# Altium integrated library SignalCommunications.IntLib: 804 symbols (part 4 of 10)
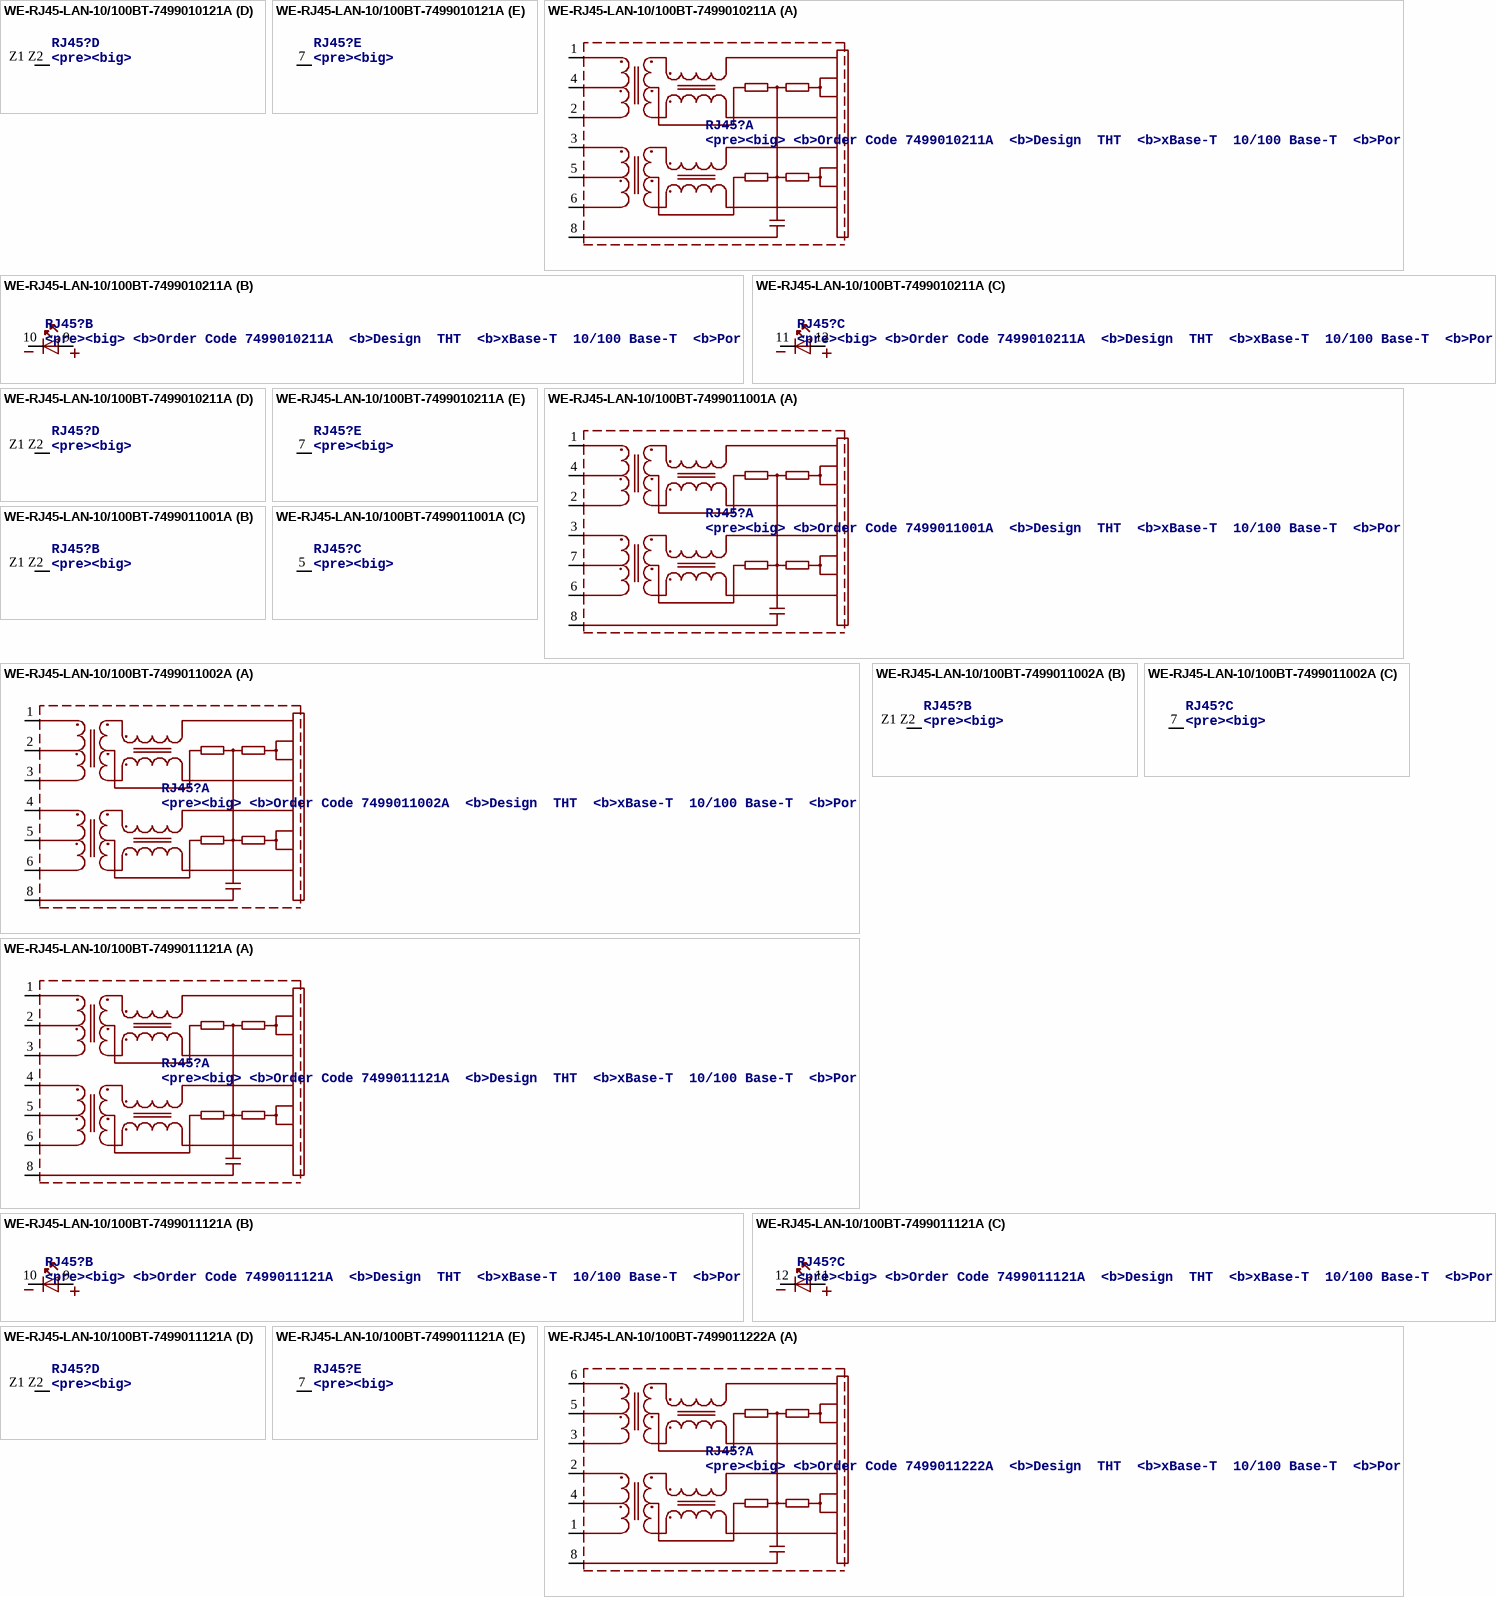
[diagram p45: symbols WE-RJ45-LAN-10/100BT-7499010121A to WE-RJ45-LAN-10/100BT-7499011222A]

## WE-RJ45-LAN-10/100BT-7499011002A
designator RJ45?, comment <pre><big> / <b>Order Code	7499011002A / <b>Design		THT / <b>xBase-T		10/100 Base-T / <b>Ports		1x1 / <b>Application	Standard / <b>Tab Position	Down / <b>LED (Left-Right)	NONE / <b>EMI Fingers	Yes
MANUFACTURER: Würth Elektronik eiSos GmbH; CREATED-BY: Christin Zierenner; COMPANY-URL: http://www.we-online.de; CREATED-DATE: AUG 2012; DATASHEET-URL: http://katalog.we-online.de/kataloge/eisos/media/pdf/7499011002A.pdf
footprint 74990-WITHOUT-LED-(21.84X15.88MM)
part A pins: 1 TD+, 2 TCT, 3 TD-, 4 RD+, 5 RCT, 6 RD-, 8 SH (power)
part B pins: Z1 Z2 P$1 (power)
part C pins: 7 NC

## WE-RJ45-LAN-10/100BT-7499011121A
designator RJ45?, comment <pre><big> / <b>Order Code	7499011121A / <b>Design		THT / <b>xBase-T		10/100 Base-T / <b>Ports		1x1 / <b>Application	Standard / <b>Tab Position	DOWN / <b>LED (Left-Right)	Yellow-Green / <b>EMI Fingers	Yes
MANUFACTURER: Würth Elektronik eiSos GmbH; CREATED-BY: Christin Zierenner; COMPANY-URL: http://www.we-online.de; CREATED-DATE: AUG 2012; DATASHEET-URL: http://katalog.we-online.de/kataloge/eisos/media/pdf/7499011121A.pdf
footprint 74990-WITH-LED-TYPE1
part A pins: 1 TD+, 2 TCT, 3 TD-, 4 RD+, 5 RCT, 6 RD-, 8 SH (power)
part B pins: 9 A, 10 K
part C pins: 11 A, 12 K
part D pins: Z1 Z2 P$1 (power)
part E pins: 7 NC

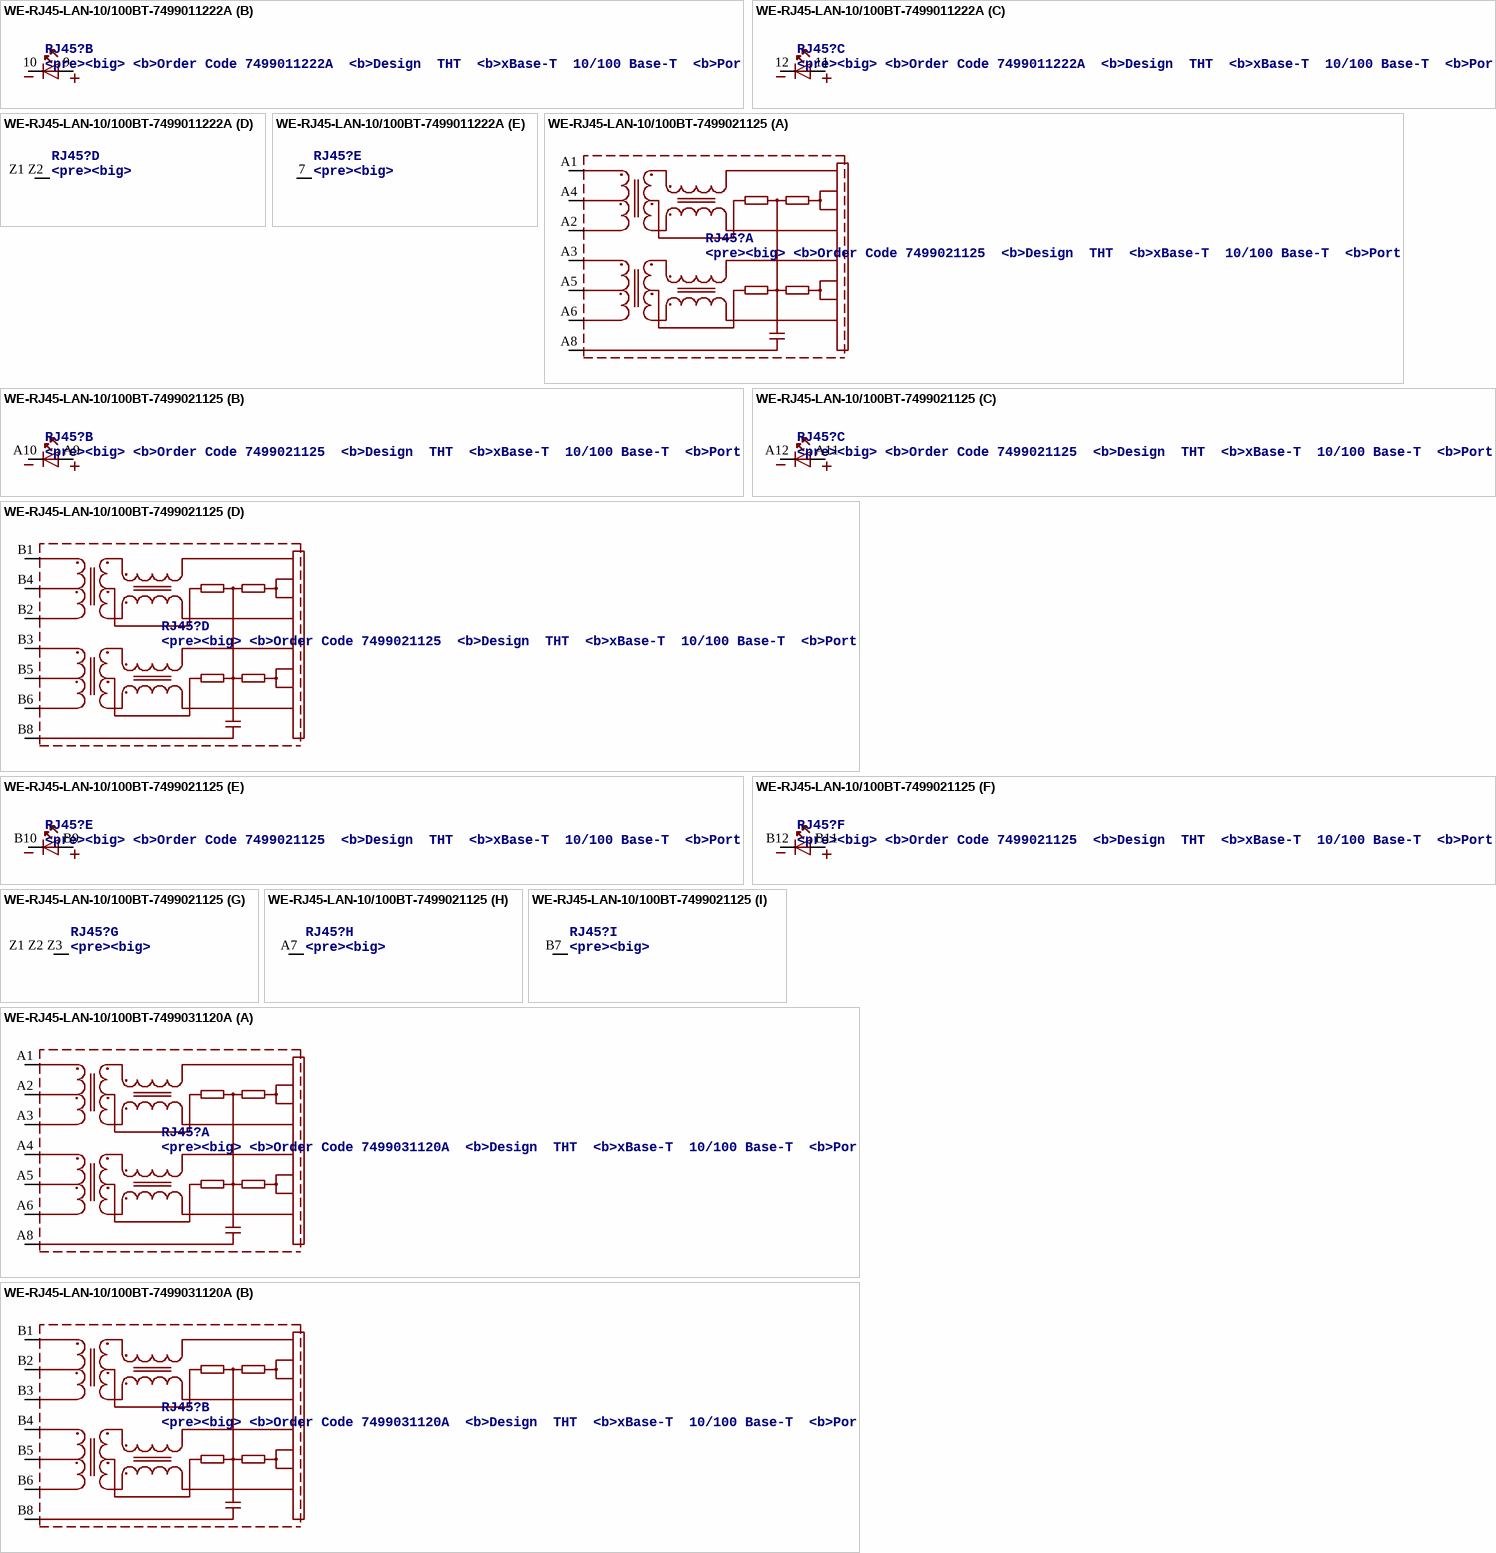
[diagram p21: symbols WE-RJ45-LAN-10/100BT-7499011222A to WE-RJ45-LAN-10/100BT-7499031120A]

## WE-RJ45-LAN-10/100BT-7499011222A
designator RJ45?, comment <pre><big> / <b>Order Code	7499011222A / <b>Design		THT / <b>xBase-T		10/100 Base-T / <b>Ports		1x1 / <b>Application	Standard / <b>Tab Position	DOWN / <b>LED (Left-Right)	Green-Green / <b>EMI Fingers	Yes
MANUFACTURER: Würth Elektronik eiSos GmbH; CREATED-BY: Christin Zierenner; COMPANY-URL: http://www.we-online.de; CREATED-DATE: AUG 2012; DATASHEET-URL: http://katalog.we-online.de/kataloge/eisos/media/pdf/7499011222A.pdf
footprint 74990-WITH-LED-TYPE1
part A pins: 1 TD-, 2 TD+, 3 RD-, 4 TCT, 5 RCT, 6 RD+, 8 SH (power)
part B pins: 9 A, 10 K
part C pins: 11 A, 12 K
part D pins: Z1 Z2 P$1 (power)
part E pins: 7 NC

## WE-RJ45-LAN-10/100BT-7499021125
designator RJ45?, comment <pre><big> / <b>Order Code	7499021125 / <b>Design		THT / <b>xBase-T		10/100 Base-T / <b>Ports		1x2 HORIZONTAL / <b>Application	Standard / <b>Tab Position	DOWN / <b>LED (Left-Right)	YELLOW-GREEN / <b>EMI Fingers	Yes
MANUFACTURER: Würth Elektronik eiSos GmbH; CREATED-BY: Christin Zierenner; COMPANY-URL: http://www.we-online.de; CREATED-DATE: AUG 2012; DATASHEET-URL: http://katalog.we-online.de/kataloge/eisos/media/pdf/7499021125.pdf
footprint 7499021125-2PORTS-HORIZONTAL
part A pins: A1 RD+, A2 RD-, A3 TD+, A4 RCT, A5 TCT, A6 TD-, A8 SH (power)
part B pins: A9 A, A10 K
part C pins: A11 A, A12 K
part D pins: B1 RD+, B2 RD-, B3 TD+, B4 RCT, B5 TCT, B6 TD-, B8 SH (power)
part E pins: B9 A, B10 K
part F pins: B11 A, B12 K
part G pins: Z1 Z2 Z3 P$1 (power)
part H pins: A7 NC
part I pins: B7 NC

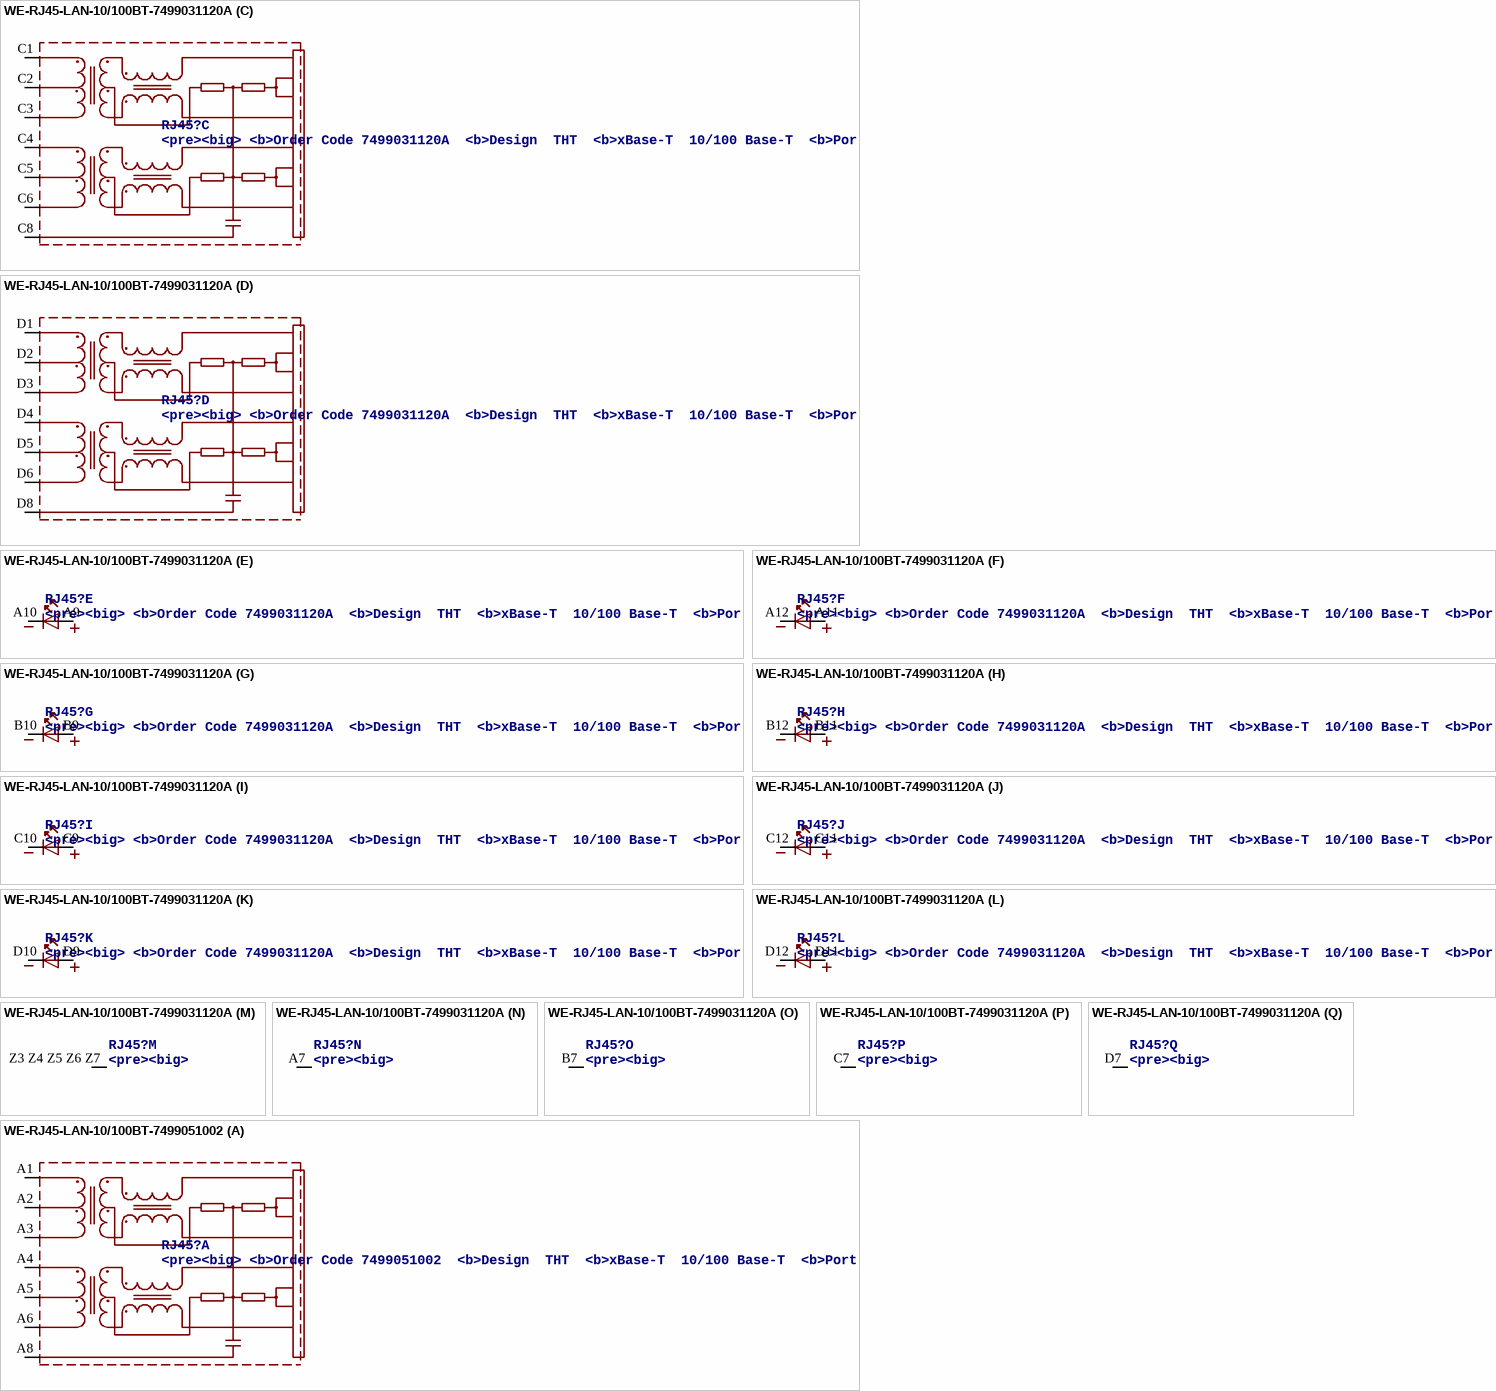
[diagram p22: symbols WE-RJ45-LAN-10/100BT-7499031120A to WE-RJ45-LAN-10/100BT-7499051002]

## WE-RJ45-LAN-10/100BT-7499031120A
designator RJ45?, comment <pre><big> / <b>Order Code	7499031120A / <b>Design		THT / <b>xBase-T		10/100 Base-T / <b>Ports		1x4 HORIZONTAL / <b>Application	Standard / <b>Tab Position	DOWN / <b>LED (Left-Right)	YELLOW-GREEN / <b>EMI Fingers	Yes
MANUFACTURER: Würth Elektronik eiSos GmbH; CREATED-BY: Christin Zierenner; COMPANY-URL: http://www.we-online.de; CREATED-DATE: AUG 2012; DATASHEET-URL: http://katalog.we-online.de/kataloge/eisos/media/pdf/7499031120A.pdf
footprint 7499031120A-4PORTS-HORIZONTAL
part A pins: A1 RD+, A2 RCT, A3 RD-, A4 TD+, A5 TCT, A6 TD-, A8 SH (power)
part B pins: B1 RD+, B2 RCT, B3 RD-, B4 TD+, B5 TCT, B6 TD-, B8 SH (power)
part C pins: C1 RD+, C2 RCT, C3 RD-, C4 TD+, C5 TCT, C6 TD-, C8 SH (power)
part D pins: D1 RD+, D2 RCT, D3 RD-, D4 TD+, D5 TCT, D6 TD-, D8 SH (power)
part E pins: A9 A, A10 K
part F pins: A11 A, A12 K
part G pins: B9 A, B10 K
part H pins: B11 A, B12 K
part I pins: C9 A, C10 K
part J pins: C11 A, C12 K
part K pins: D9 A, D10 K
part L pins: D11 A, D12 K
part M pins: Z3 Z4 Z5 Z6 Z7 P$1 (power)
part N pins: A7 NC
part O pins: B7 NC
part P pins: C7 NC
part Q pins: D7 NC

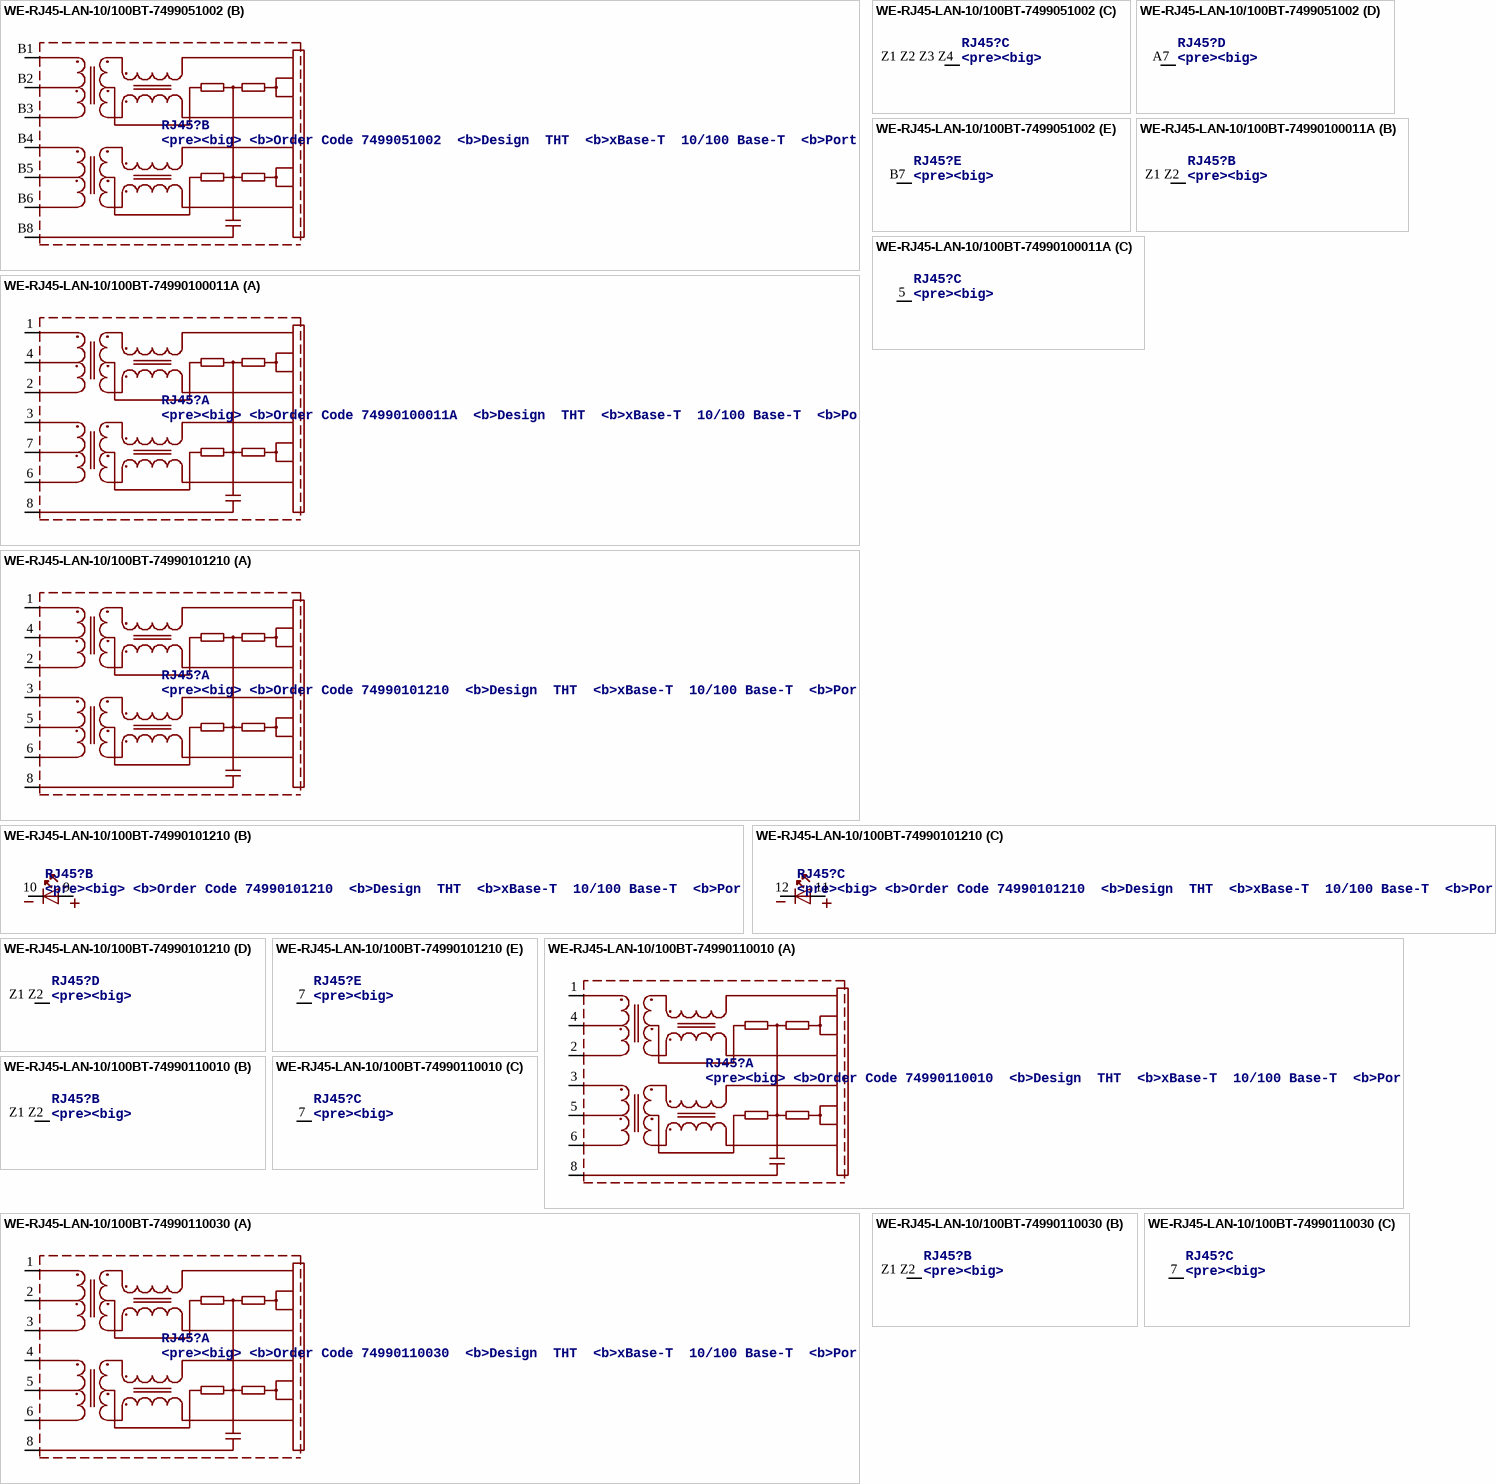
[diagram p23: symbols WE-RJ45-LAN-10/100BT-7499051002 to WE-RJ45-LAN-10/100BT-74990110030]

## WE-RJ45-LAN-10/100BT-7499051002
designator RJ45?, comment <pre><big> / <b>Order Code	7499051002 / <b>Design		THT / <b>xBase-T		10/100 Base-T / <b>Ports		1x2 STACKED / <b>Application	Standard / <b>Tab Position	UP & DOWN / <b>LED (Left-Right)	NONE / <b>EMI Fingers	Yes
MANUFACTURER: Würth Elektronik eiSos GmbH; CREATED-BY: Christin Zierenner; COMPANY-URL: http://www.we-online.de; CREATED-DATE: AUG 2012; DATASHEET-URL: http://katalog.we-online.de/kataloge/eisos/media/pdf/7499051002.pdf
footprint 7499051002-1X2-STACKED
part A pins: A1 TD+, A2 TCT, A3 TD-, A4 RD+, A5 RCT, A6 RD-, A8 SH (power)
part B pins: B1 TD+, B2 TCT, B3 TD-, B4 RD+, B5 RCT, B6 RD-, B8 SH (power)
part C pins: Z1 Z2 Z3 Z4 P$1 (power)
part D pins: A7 NC
part E pins: B7 NC

## WE-RJ45-LAN-10/100BT-74990100011A
designator RJ45?, comment <pre><big> / <b>Order Code	74990100011A / <b>Design		THT / <b>xBase-T		10/100 Base-T / <b>Ports		1x1 / <b>Application	Standard / <b>Tab Position	UP / <b>LED (Left-Right)	NONE / <b>EMI Fingers	No
MANUFACTURER: Würth Elektronik eiSos GmbH; CREATED-BY: Christin Zierenner; COMPANY-URL: http://www.we-online.de; CREATED-DATE: AUG 2012; DATASHEET-URL: http://katalog.we-online.de/kataloge/eisos/media/pdf/74990100011A.pdf
footprint 74990-WITHOUT-LED-(21.84X16.2MM)
part A pins: 1 RD+, 2 RD-, 3 TD+, 4 RCT, 6 TD-, 7 TCT, 8 SH (power)
part B pins: Z1 Z2 P$1 (power)
part C pins: 5 NC

## WE-RJ45-LAN-10/100BT-74990101210
designator RJ45?, comment <pre><big> / <b>Order Code	74990101210 / <b>Design		THT / <b>xBase-T		10/100 Base-T / <b>Ports		1x1 Vertical / <b>Application	Standard / <b>Tab Position 	Vertical / <b>LED (Left-Right)	Yellow-Green / <b>EMI Fingers	No
MANUFACTURER: Würth Elektronik eiSos GmbH; CREATED-BY: Christin Zierenner; COMPANY-URL: http://www.we-online.de; CREATED-DATE: AUG 2012; DATASHEET-URL: http://katalog.we-online.de/kataloge/eisos/media/pdf/74990101210.pdf
footprint 74990101210-VERTICALMOUNT
part A pins: 1 TD+, 2 TD-, 3 RD+, 4 TCT, 5 RCT, 6 RD-, 8 SH (power)
part B pins: 9 A, 10 K
part C pins: 11 A, 12 K
part D pins: Z1 Z2 P$1 (power)
part E pins: 7 NC

## WE-RJ45-LAN-10/100BT-74990110010
designator RJ45?, comment <pre><big> / <b>Order Code	74990110010 / <b>Design		THT / <b>xBase-T		10/100 Base-T / <b>Ports		1x1 / <b>Application	Standard / <b>Tab Position	UP / <b>LED (Left-Right)	NONE / <b>EMI Fingers	Yes
MANUFACTURER: Würth Elektronik eiSos GmbH; CREATED-BY: Christin Zierenner; COMPANY-URL: http://www.we-online.de; CREATED-DATE: AUG 2012; DATASHEET-URL: http://katalog.we-online.de/kataloge/eisos/media/pdf/74990110010.pdf
footprint 74990-WITHOUT-LED
part A pins: 1 TD+, 2 TD-, 3 RD+, 4 TCT, 5 RCT, 6 RD-, 8 SH (power)
part B pins: Z1 Z2 P$1 (power)
part C pins: 7 NC

## WE-RJ45-LAN-10/100BT-74990110030
designator RJ45?, comment <pre><big> / <b>Order Code	74990110030 / <b>Design		THT / <b>xBase-T		10/100 Base-T / <b>Ports		1x1 / <b>Application	Standard / <b>Tab Position	UP / <b>LED (Left-Right)	NONE / <b>EMI Fingers	Yes
MANUFACTURER: Würth Elektronik eiSos GmbH; CREATED-BY: Christin Zierenner; COMPANY-URL: http://www.we-online.de; CREATED-DATE: AUG 2012; DATASHEET-URL: http://katalog.we-online.de/kataloge/eisos/media/pdf/74990110030.pdf
footprint 74990110030
part A pins: 1 TD+, 2 TCT, 3 TD-, 4 RD+, 5 RCT, 6 RD-, 8 SH (power)
part B pins: Z1 Z2 P$1 (power)
part C pins: 7 NC

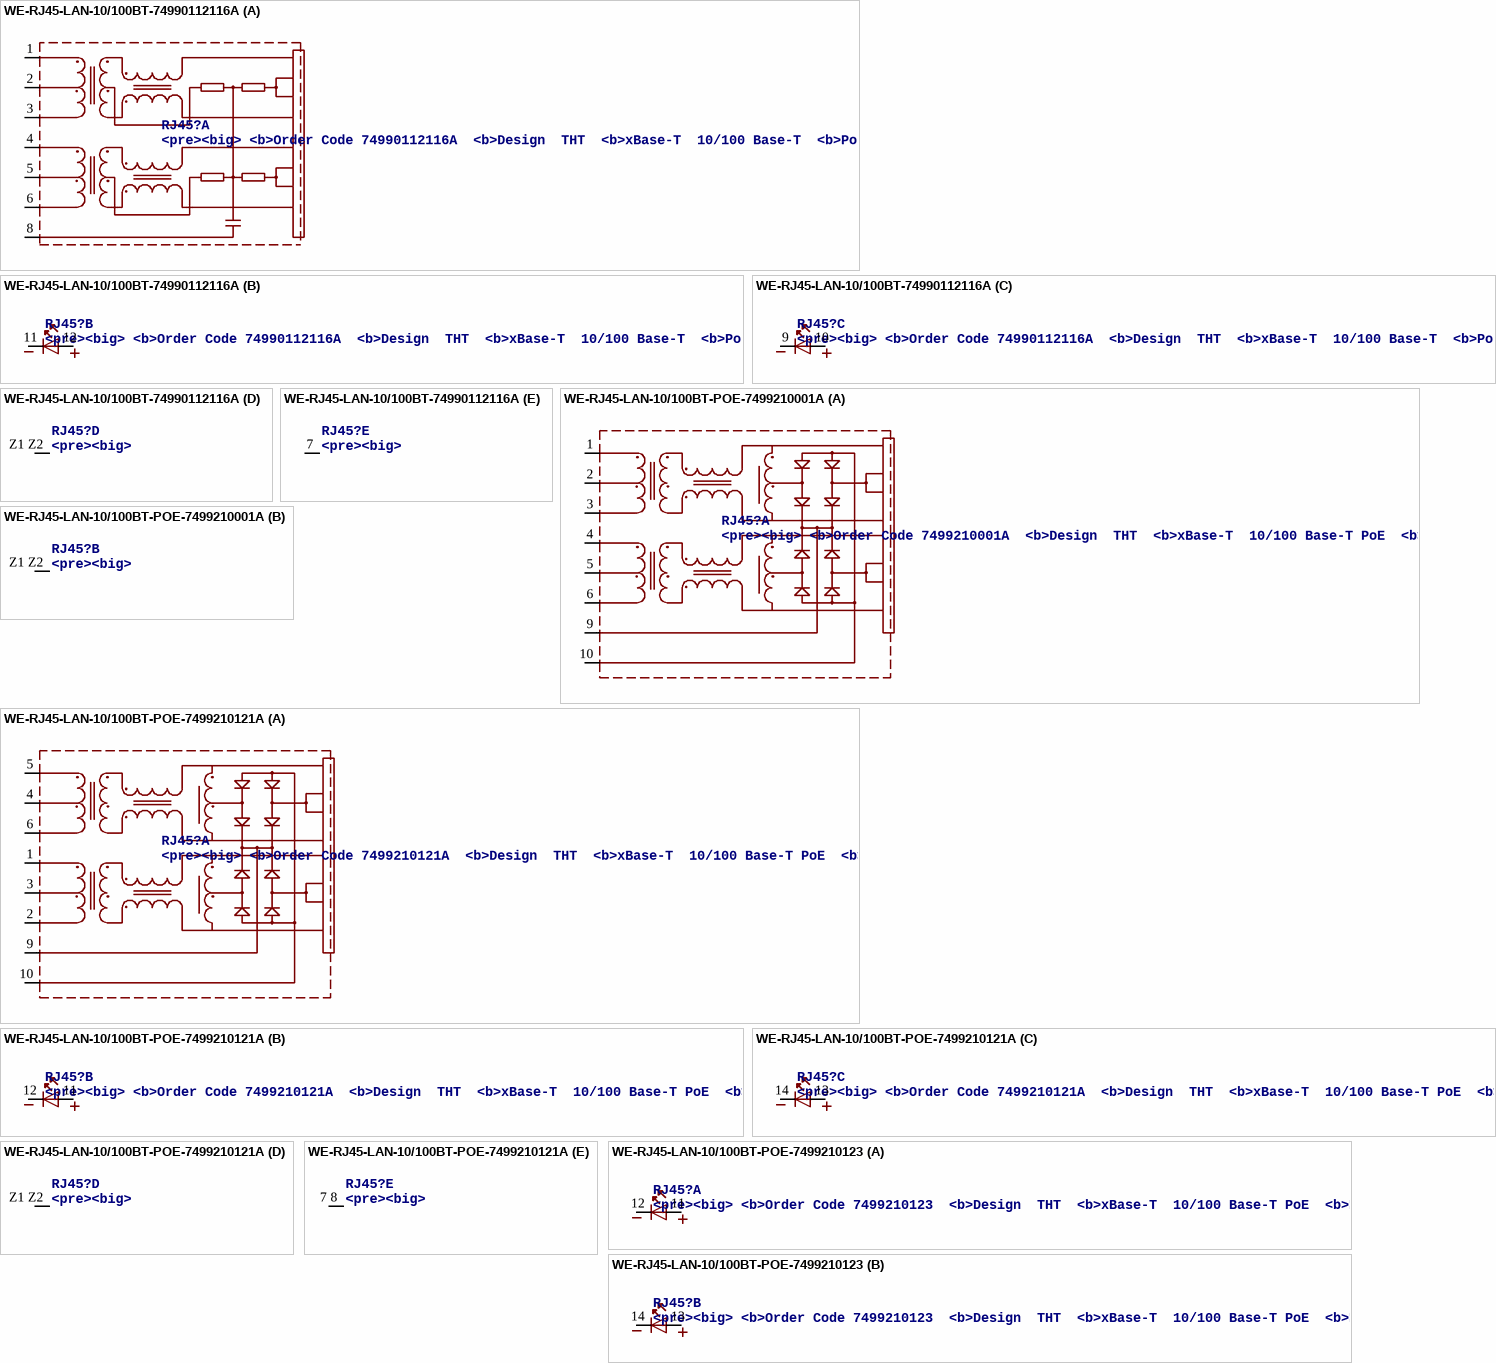
[diagram p24: symbols WE-RJ45-LAN-10/100BT-74990112116A to WE-RJ45-LAN-10/100BT-POE-7499210123]

## WE-RJ45-LAN-10/100BT-74990112116A
designator RJ45?, comment <pre><big> / <b>Order Code	74990112116A / <b>Design		THT / <b>xBase-T		10/100 Base-T / <b>Ports		1x1 / <b>Application	Standard / <b>Tab Position	UP / <b>LED (Left-Right)	Green-Yellow / <b>EMI Fingers	Yes
MANUFACTURER: Würth Elektronik eiSos GmbH; CREATED-BY: Christin Zierenner; COMPANY-URL: http://www.we-online.de; CREATED-DATE: AUG 2012; DATASHEET-URL: http://katalog.we-online.de/kataloge/eisos/media/pdf/74990112116A.pdf
footprint 74990-WITH-LED
part A pins: 1 TD+, 2 TCT, 3 TD-, 4 RD+, 5 RCT, 6 RD-, 8 SH (power)
part B pins: 11 K, 12 A
part C pins: 9 K, 10 A
part D pins: Z1 Z2 P$1 (power)
part E pins: 7 NC

## WE-RJ45-LAN-10/100BT-POE-7499210001A
designator RJ45?, comment <pre><big> / <b>Order Code	7499210001A / <b>Design		THT / <b>xBase-T		10/100 Base-T PoE / <b>Ports		1x1 / <b>Application	PoE / <b>Tab Position	UP / <b>LED (Left-Right)	NONE / <b>EMI Fingers	No
MANUFACTURER: Würth Elektronik eiSos GmbH; CREATED-BY: Christin Zierenner; COMPANY-URL: http://www.we-online.de; CREATED-DATE: AUG 2012; DATASHEET-URL: http://katalog.we-online.de/kataloge/eisos/media/pdf/7499210001A.pdf
footprint 7499210001A
part A pins: 1 RD+, 2 RCT, 3 RD-, 4 TD+, 5 TCT, 6 TD-, 9 VC1+ (power), 10 VC1- (power)
part B pins: Z1 Z2 P$1 (power)

## WE-RJ45-LAN-10/100BT-POE-7499210121A
designator RJ45?, comment <pre><big> / <b>Order Code	7499210121A / <b>Design		THT / <b>xBase-T		10/100 Base-T PoE / <b>Ports		1x1 / <b>Application	PoE / <b>Tab Position	DOWN / <b>LED (Left-Right)	YELLOW-GREEN / <b>EMI Fingers	No
MANUFACTURER: Würth Elektronik eiSos GmbH; CREATED-BY: Christin Zierenner; COMPANY-URL: http://www.we-online.de; CREATED-DATE: AUG 2012; DATASHEET-URL: http://katalog.we-online.de/kataloge/eisos/media/pdf/7499210121A.pdf
footprint 7499210121A
part A pins: 1 TD+, 2 TD-, 3 TCT, 4 RCT, 5 RD+, 6 RD-, 9 VC1+ (power), 10 VC1- (power)
part B pins: 11 A, 12 K
part C pins: 13 A, 14 K
part D pins: Z1 Z2 P$1 (power)
part E pins: 7 8 NC

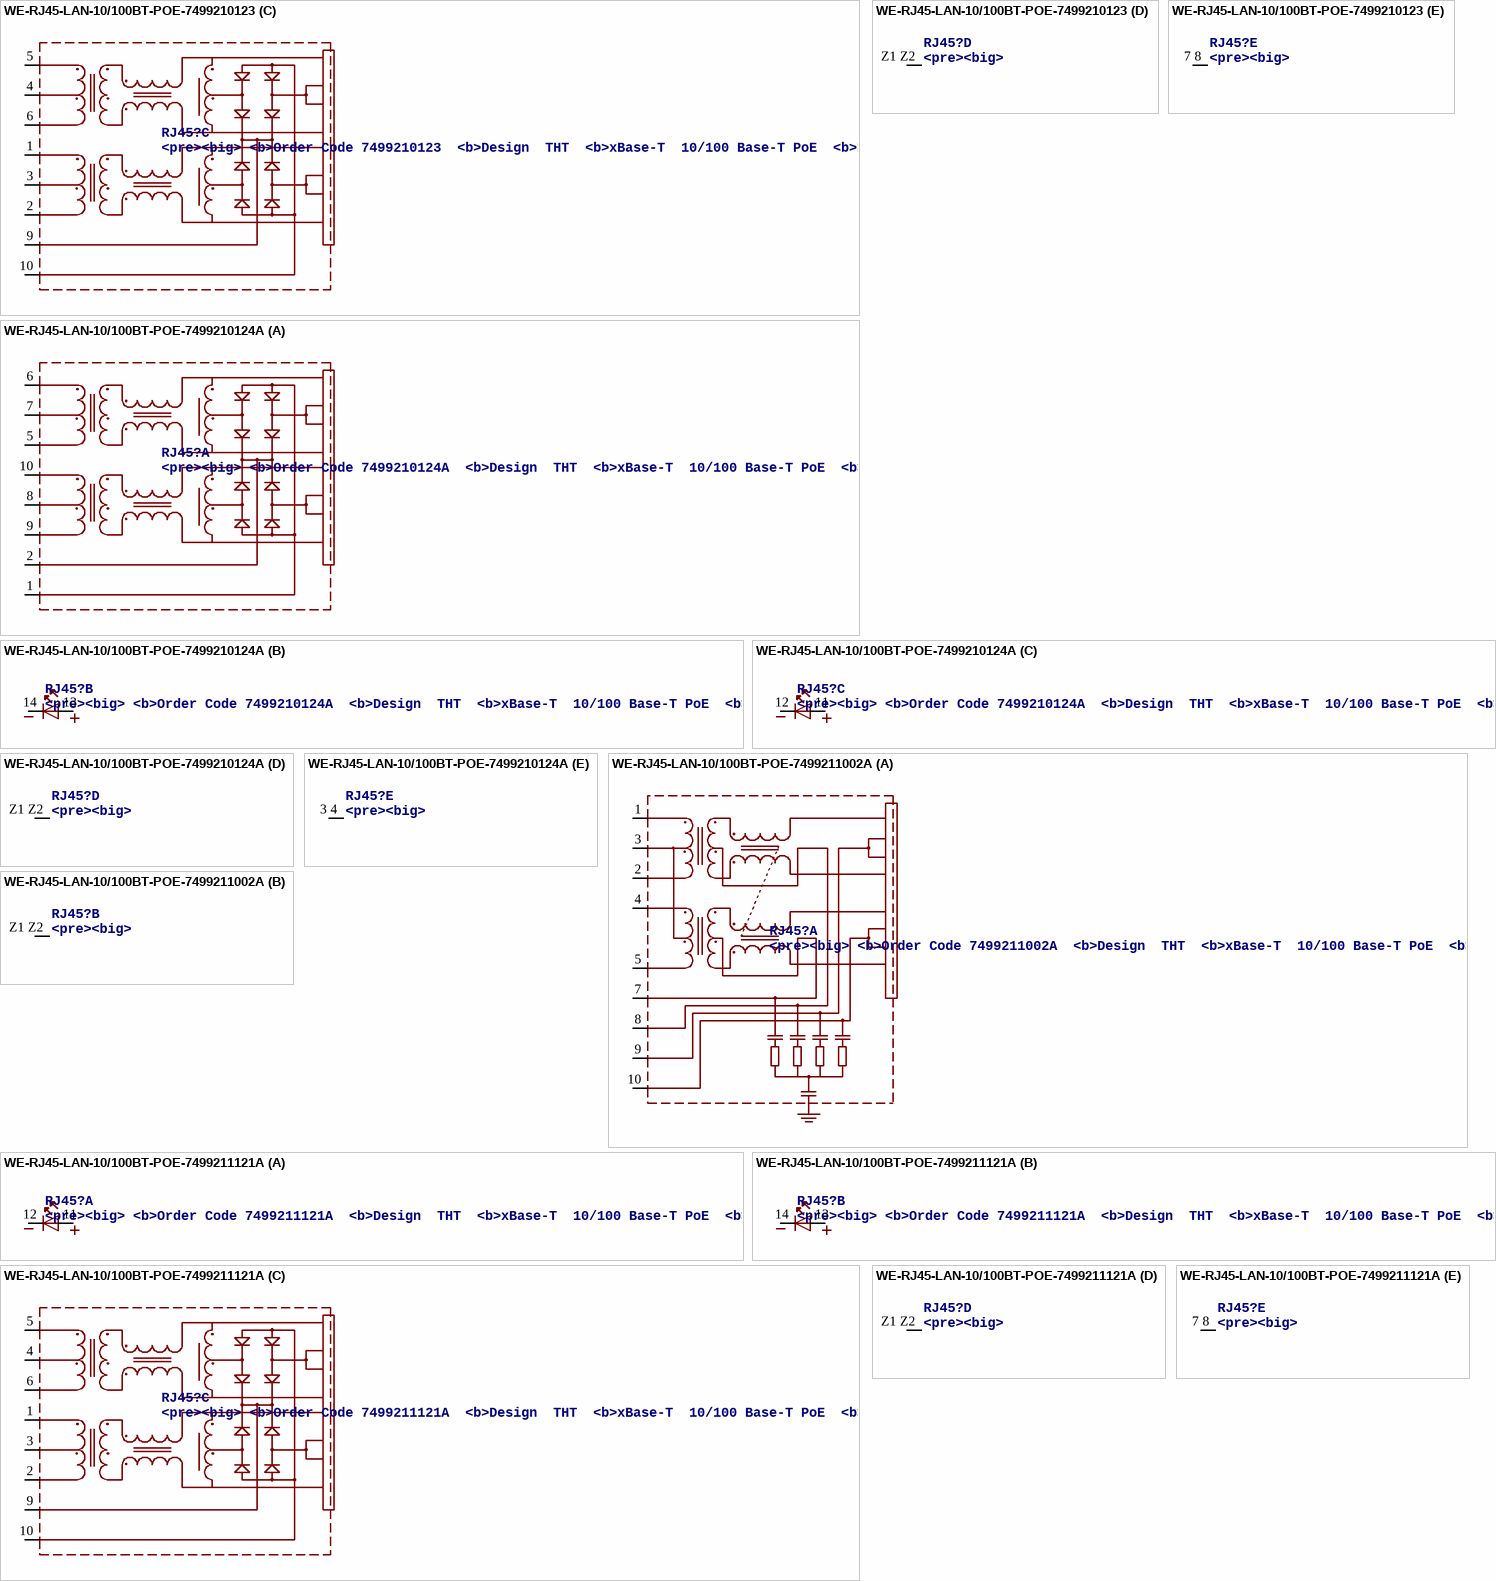
[diagram p25: symbols WE-RJ45-LAN-10/100BT-POE-7499210123 to WE-RJ45-LAN-10/100BT-POE-7499211121A]

## WE-RJ45-LAN-10/100BT-POE-7499210123
designator RJ45?, comment <pre><big> / <b>Order Code	7499210123 / <b>Design		THT / <b>xBase-T		10/100 Base-T PoE / <b>Ports		1x1 / <b>Application	PoE / <b>Tab Position	VERTICAL / <b>LED (Left-Right)	YELLOW-GREEN / <b>EMI Fingers	No
MANUFACTURER: Würth Elektronik eiSos GmbH; CREATED-BY: Christin Zierenner; COMPANY-URL: http://www.we-online.de; CREATED-DATE: AUG 2012; DATASHEET-URL: http://katalog.we-online.de/kataloge/eisos/media/pdf/7499210123.pdf
footprint 7499210123
part A pins: 11 A, 12 K
part B pins: 13 A, 14 K
part C pins: 1 TD+, 2 TD-, 3 TCT, 4 RCT, 5 RD+, 6 RD-, 9 VC1+ (power), 10 VC1- (power)
part D pins: Z1 Z2 P$1 (power)
part E pins: 7 8 NC

## WE-RJ45-LAN-10/100BT-POE-7499210124A
designator RJ45?, comment <pre><big> / <b>Order Code	7499210124A / <b>Design		THT / <b>xBase-T		10/100 Base-T PoE / <b>Ports		1x1 / <b>Application	PoE / <b>Tab Position	UP / <b>LED (Left-Right)	YELLOW-GREEN / <b>EMI Fingers	No
MANUFACTURER: Würth Elektronik eiSos GmbH; CREATED-BY: Christin Zierenner; COMPANY-URL: http://www.we-online.de; CREATED-DATE: AUG 2012; DATASHEET-URL: http://katalog.we-online.de/kataloge/eisos/media/pdf/7499210124A.pdf
footprint 7499210124A
part A pins: 1 VC1- (power), 2 VC1+ (power), 5 RD-, 6 RD+, 7 RCT, 8 TCT, 9 TD-, 10 TD+
part B pins: 13 A, 14 K
part C pins: 11 A, 12 K
part D pins: Z1 Z2 P$1 (power)
part E pins: 3 4 NC

## WE-RJ45-LAN-10/100BT-POE-7499211002A
designator RJ45?, comment <pre><big> / <b>Order Code	7499211002A / <b>Design		THT / <b>xBase-T		10/100 Base-T PoE / <b>Ports		1x1 / <b>Application	PoE / <b>Tab Position	DOWN / <b>LED (Left-Right)	NONE / <b>EMI Fingers	Yes
MANUFACTURER: Würth Elektronik eiSos GmbH; CREATED-BY: Christin Zierenner; COMPANY-URL: http://www.we-online.de; CREATED-DATE: AUG 2012; DATASHEET-URL: http://katalog.we-online.de/kataloge/eisos/media/pdf/7499211002A.pdf
footprint 7499211002A
part A pins: 1 TD+, 2 TD-, 3 TCT, 4 RD+, 5 RD-, 7 VC1+ (power), 8 VC1- (power), 9 VC2+ (power), 10 VC2- (power)
part B pins: Z1 Z2 P$1 (power)

## WE-RJ45-LAN-10/100BT-POE-7499211121A
designator RJ45?, comment <pre><big> / <b>Order Code	7499211121A / <b>Design		THT / <b>xBase-T		10/100 Base-T PoE / <b>Ports		1x1 / <b>Application	PoE / <b>Tab Position	DOWN / <b>LED (Left-Right)	YELLOW-GREEN / <b>EMI Fingers	Yes
MANUFACTURER: Würth Elektronik eiSos GmbH; CREATED-BY: Christin Zierenner; COMPANY-URL: http://www.we-online.de; CREATED-DATE: AUG 2012; DATASHEET-URL: http://katalog.we-online.de/kataloge/eisos/media/pdf/7499211121A.pdf
footprint 7499211121A
part A pins: 11 A, 12 K
part B pins: 13 A, 14 K
part C pins: 1 RD+, 2 RD-, 3 RCT, 4 TCT, 5 TD+, 6 TD-, 9 VC1+ (power), 10 VC1- (power)
part D pins: Z1 Z2 P$1 (power)
part E pins: 7 8 NC

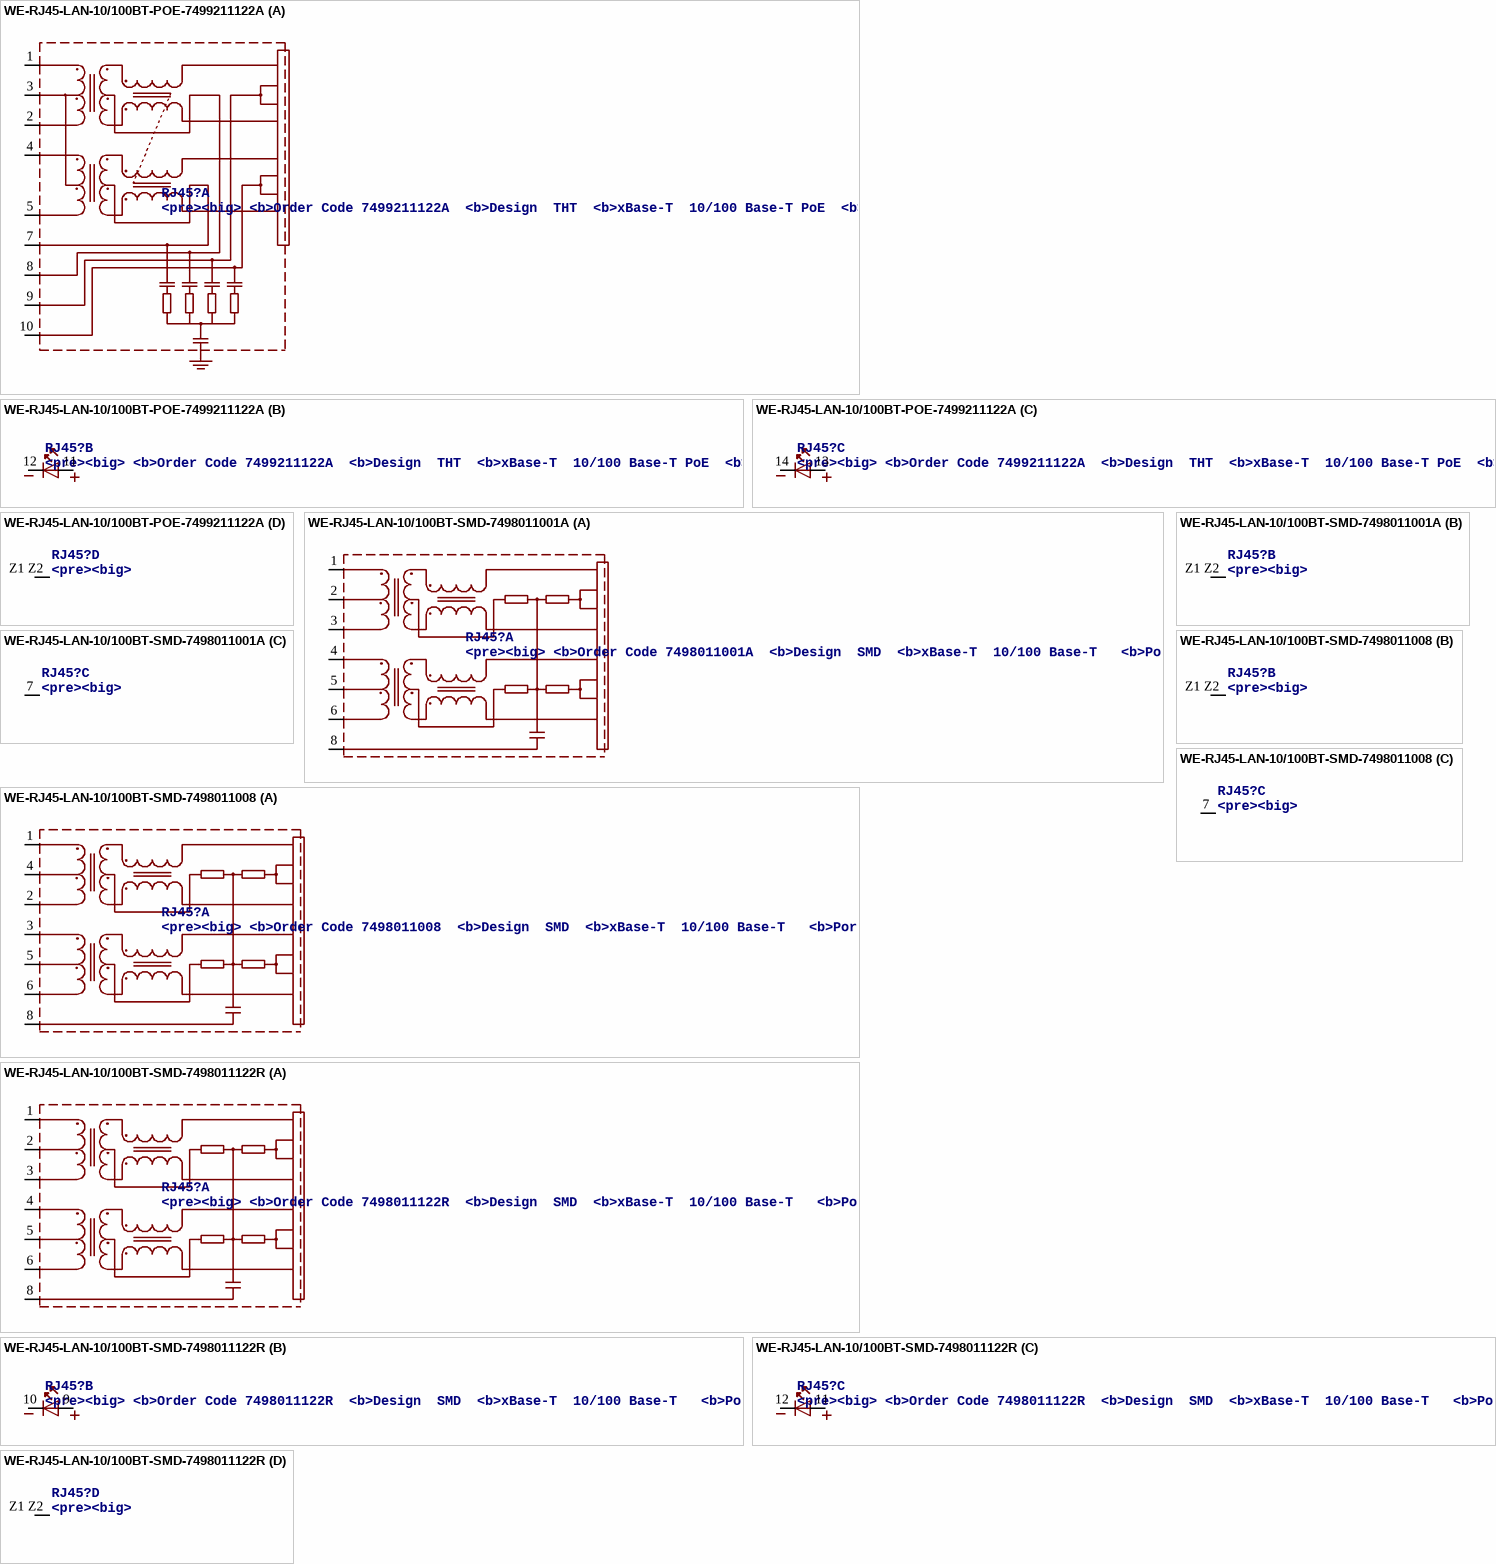
[diagram p26: symbols WE-RJ45-LAN-10/100BT-POE-7499211122A to WE-RJ45-LAN-10/100BT-SMD-7498011122R]

## WE-RJ45-LAN-10/100BT-POE-7499211122A
designator RJ45?, comment <pre><big> / <b>Order Code	7499211122A / <b>Design		THT / <b>xBase-T		10/100 Base-T PoE / <b>Ports		1x1 / <b>Application	PoE / <b>Tab Position	DOWN / <b>LED (Left-Right)	YELLOW-GREEN / <b>EMI Fingers	Yes
MANUFACTURER: Würth Elektronik eiSos GmbH; CREATED-BY: Christin Zierenner; COMPANY-URL: http://www.we-online.de; CREATED-DATE: AUG 2012; DATASHEET-URL: http://katalog.we-online.de/kataloge/eisos/media/pdf/7499211122A.pdf
footprint 7499211122A
part A pins: 1 RD+, 2 RD-, 3 RCT, 4 TD+, 5 TD-, 7 VC1+ (power), 8 VC1- (power), 9 VC2+ (power), 10 VC2- (power)
part B pins: 11 A, 12 K
part C pins: 13 A, 14 K
part D pins: Z1 Z2 P$1 (power)

## WE-RJ45-LAN-10/100BT-SMD-7498011001A
designator RJ45?, comment <pre><big> / <b>Order Code	7498011001A / <b>Design		SMD / <b>xBase-T		10/100 Base-T / <b>Ports		1x1 / <b>Application	Standard / <b>Tab Position	Down / <b>LED (Left-Right)	None / <b>EMI Fingers	Yes
MANUFACTURER: Würth Elektronik eiSos GmbH; CREATED-BY: Christin Zierenner; COMPANY-URL: http://www.we-online.de; CREATED-DATE: AUG 2012; DATASHEET-URL: http://katalog.we-online.de/kataloge/eisos/media/pdf/7498011001A.pdf
footprint 749801100X
part A pins: 1 TD+, 2 TCT, 3 TD-, 4 RD+, 5 RCT, 6 RD-, 8 SH (power)
part B pins: Z1 Z2 P$1 (power)
part C pins: 7 NC

## WE-RJ45-LAN-10/100BT-SMD-7498011008
designator RJ45?, comment <pre><big> / <b>Order Code	7498011008 / <b>Design		SMD / <b>xBase-T		10/100 Base-T / <b>Ports		1x1 / <b>Application	Standard / <b>Tab Position	Down / <b>LED (Left-Right)	None / <b>EMI Fingers	Yes
MANUFACTURER: Würth Elektronik eiSos GmbH; CREATED-BY: Christin Zierenner; COMPANY-URL: http://www.we-online.de; CREATED-DATE: AUG 2012; DATASHEET-URL: http://katalog.we-online.de/kataloge/eisos/media/pdf/7498011008.pdf
footprint 749801100X
part A pins: 1 RD+, 2 RD-, 3 TD+, 4 RCT, 5 TCT, 6 TD-, 8 SH (power)
part B pins: Z1 Z2 P$1 (power)
part C pins: 7 NC

## WE-RJ45-LAN-10/100BT-SMD-7498011122R
designator RJ45?, comment <pre><big> / <b>Order Code	7498011122R / <b>Design		SMD / <b>xBase-T		10/100 Base-T / <b>Ports		1x1 / <b>Application	Standard / <b>Tab Position	Up / <b>LED (Left-Right)	YELLOW-GREEN / <b>EMI Fingers	Yes
MANUFACTURER: Würth Elektronik eiSos GmbH; CREATED-BY: Christin Zierenner; COMPANY-URL: http://www.we-online.de; CREATED-DATE: AUG 2012; DATASHEET-URL: http://katalog.we-online.de/kataloge/eisos/media/pdf/7498011122R.pdf
footprint 7498011122R
part A pins: 1 TD+, 2 TCT, 3 TD-, 4 RD+, 5 RCT, 6 RD-, 8 SH (power)
part B pins: 9 A, 10 K
part C pins: 11 A, 12 K
part D pins: Z1 Z2 P$1 (power)

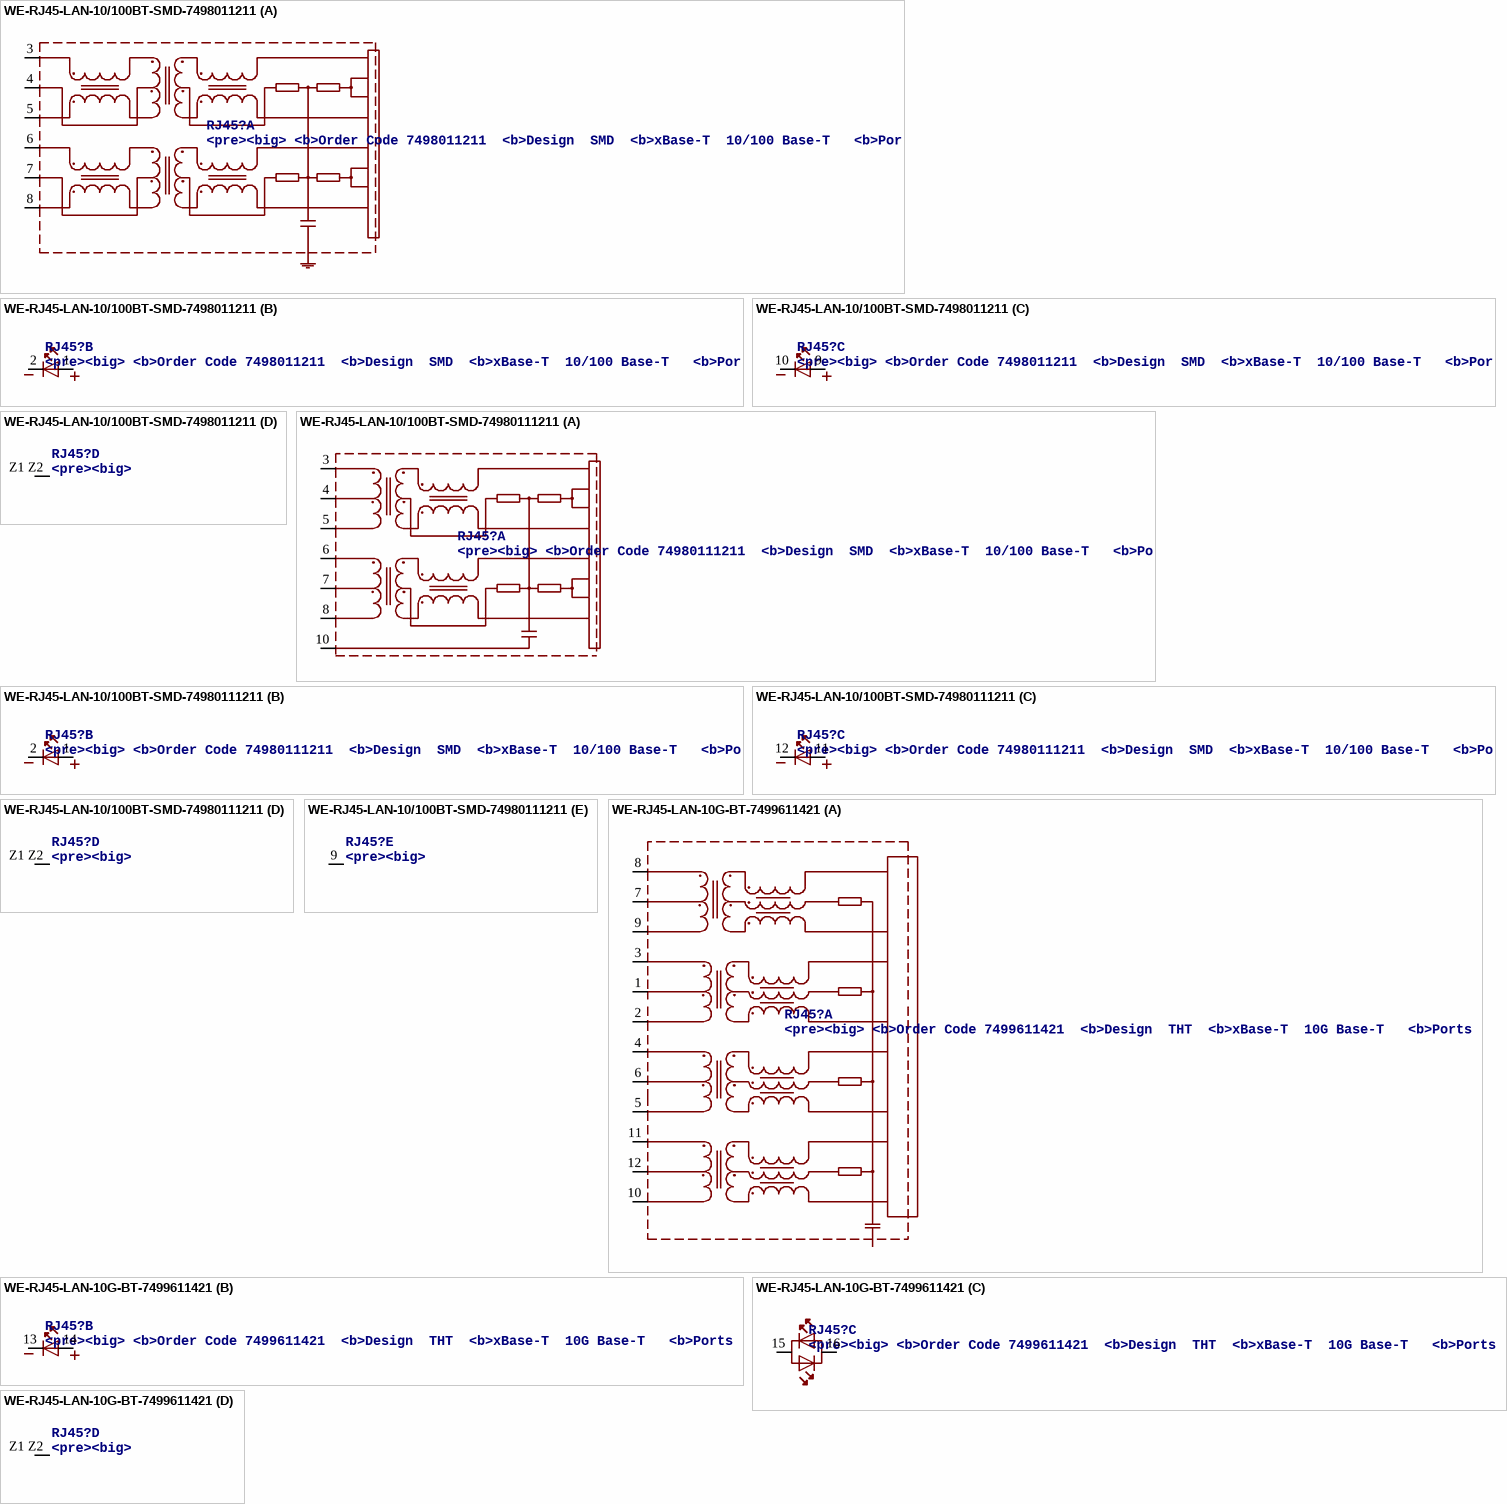
[diagram p27: symbols WE-RJ45-LAN-10/100BT-SMD-7498011211 to WE-RJ45-LAN-10G-BT-7499611421]

## WE-RJ45-LAN-10/100BT-SMD-7498011211
designator RJ45?, comment <pre><big> / <b>Order Code	7498011211 / <b>Design		SMD / <b>xBase-T		10/100 Base-T / <b>Ports		1x1 / <b>Application	Standard / <b>Tab Position	DOWN / <b>LED (Left-Right)	GREEN-YELLOW / <b>EMI Fingers	Yes
MANUFACTURER: Würth Elektronik eiSos GmbH; CREATED-BY: Christin Zierenner; COMPANY-URL: http://www.we-online.de; CREATED-DATE: AUG 2012; DATASHEET-URL: http://katalog.we-online.de/kataloge/eisos/media/pdf/7498011211.pdf
footprint 7498011211
part A pins: 3 TD+, 4 TCT, 5 TD-, 6 RD+, 7 RCT, 8 RD-
part B pins: 1 A, 2 K
part C pins: 9 A, 10 K
part D pins: Z1 Z2 P$1 (power)

## WE-RJ45-LAN-10/100BT-SMD-74980111211
designator RJ45?, comment <pre><big> / <b>Order Code	74980111211 / <b>Design		SMD / <b>xBase-T		10/100 Base-T / <b>Ports		1x1 / <b>Application	Standard / <b>Tab Position	Up / <b>LED (Left-Right)	YELLOW-GREEN / <b>EMI Fingers	Yes
MANUFACTURER: Würth Elektronik eiSos GmbH; CREATED-BY: Christin Zierenner; COMPANY-URL: http://www.we-online.de; CREATED-DATE: AUG 2012; DATASHEET-URL: http://katalog.we-online.de/kataloge/eisos/media/pdf/74980111211.pdf
footprint 74980111211
part A pins: 3 RD+, 4 RCT, 5 RD-, 6 TD+, 7 TCT, 8 TD-, 10 SH (power)
part B pins: 1 A, 2 K
part C pins: 11 A, 12 K
part D pins: Z1 Z2 P$1 (power)
part E pins: 9 NC

## WE-RJ45-LAN-10G-BT-7499611421
designator RJ45?, comment <pre><big> / <b>Order Code	7499611421 / <b>Design		THT / <b>xBase-T		10G Base-T / <b>Ports		1x1 / <b>Application	Standard / <b>Tab Position	UP / <b>LED (Left-Right)	GREEN/YELLOW-GREEN / <b>EMI Fingers	Yes
MANUFACTURER: Würth Elektronik eiSos GmbH; CREATED-BY: Christin Zierenner; COMPANY-URL: http://www.we-online.de; CREATED-DATE: AUG 2012; DATASHEET-URL: http://katalog.we-online.de/kataloge/eisos/media/pdf/7499611421.pdf
footprint 7499611421
part A pins: 1, 2, 3, 4, 5, 6, 7, 8, 9, 10, 11, 12
part B pins: 13 K, 14 A
part C pins: 15 AK1, 16 AK2
part D pins: Z1 Z2 P$1 (power)

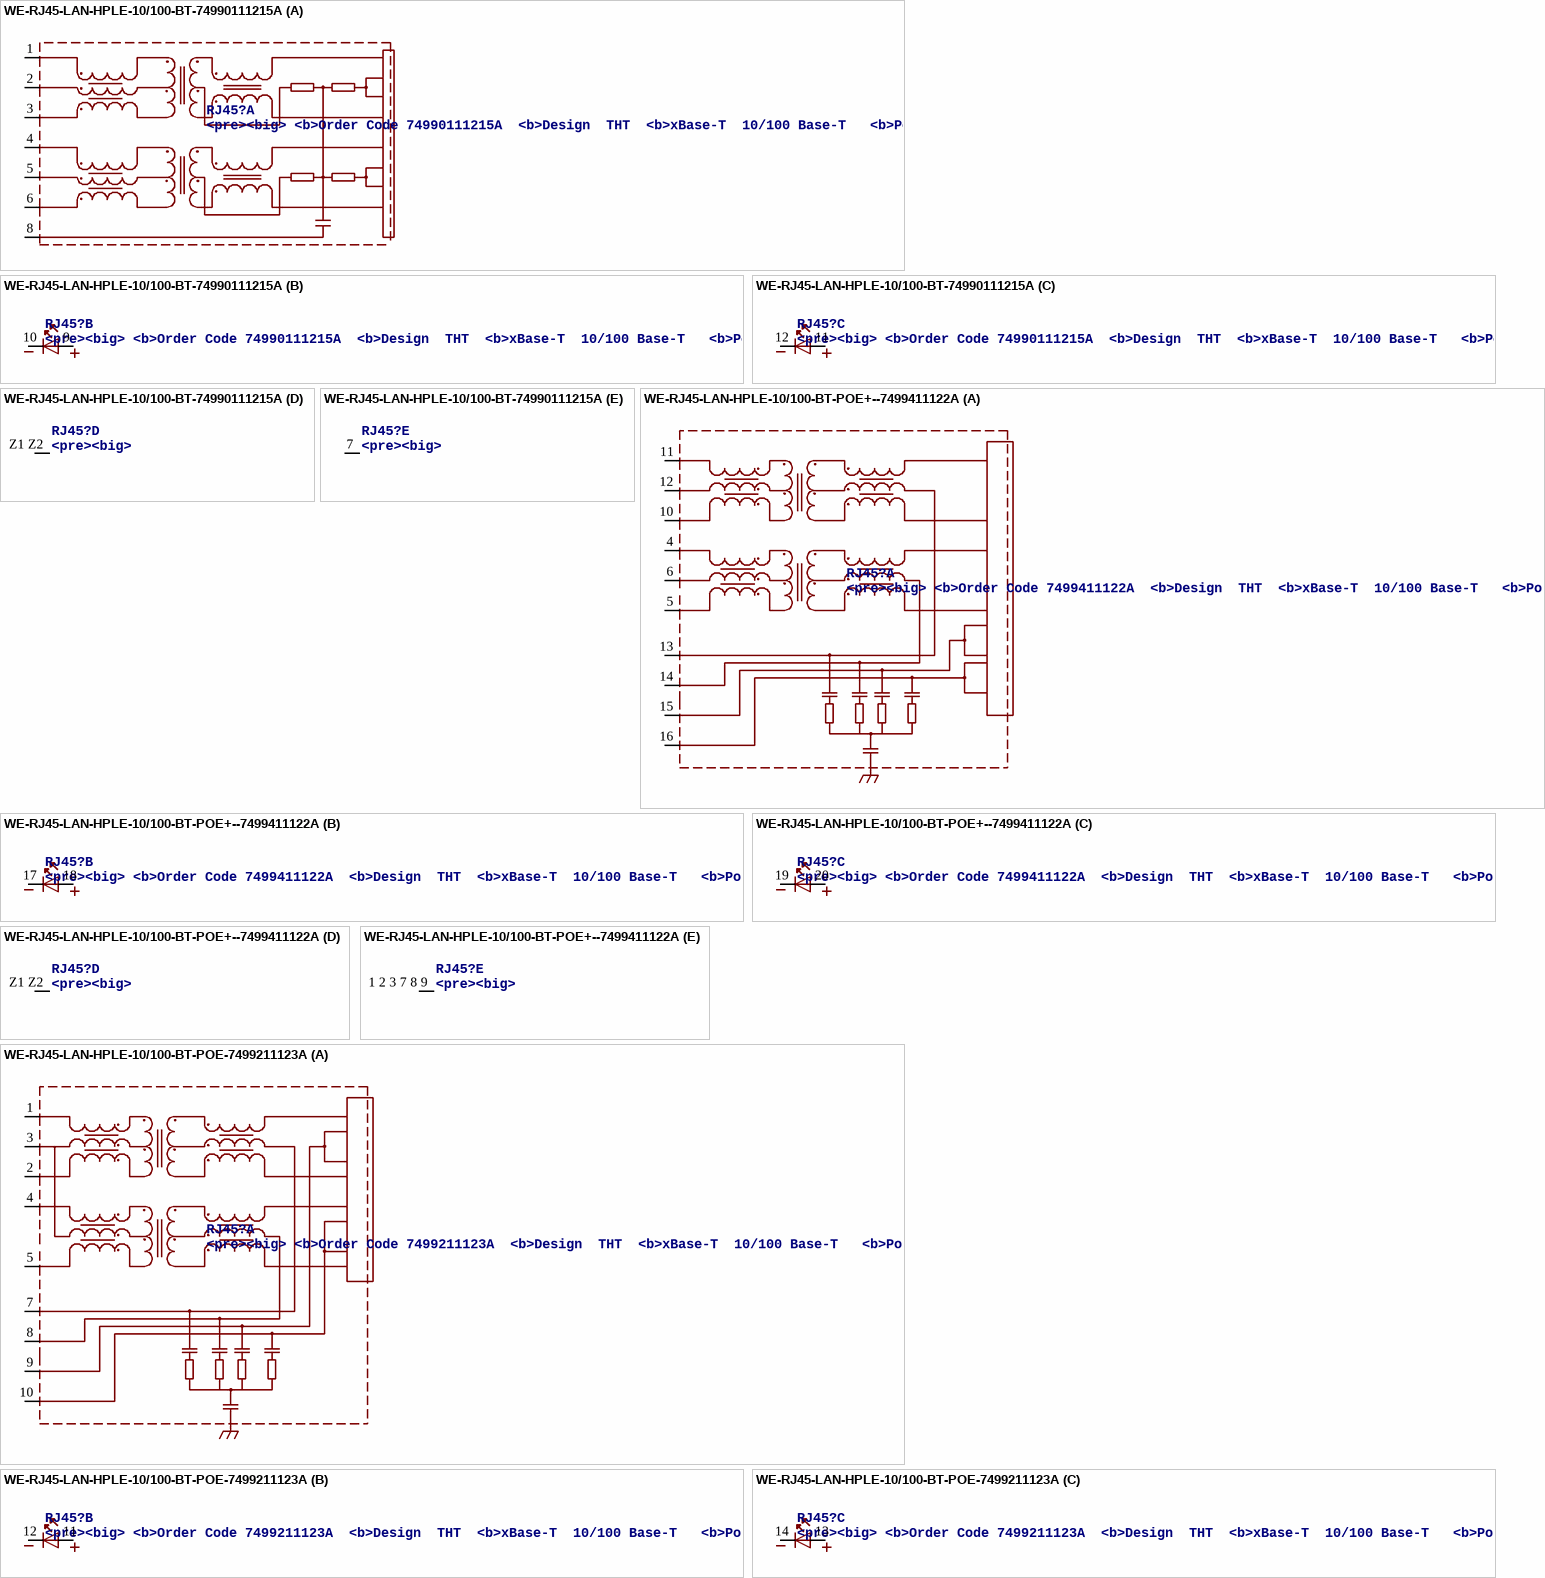
[diagram p28: symbols WE-RJ45-LAN-HPLE-10/100-BT-74990111215A to WE-RJ45-LAN-HPLE-10/100-BT-POE-7499211123A]

## WE-RJ45-LAN-HPLE-10/100-BT-74990111215A
designator RJ45?, comment <pre><big> / <b>Order Code	74990111215A / <b>Design		THT / <b>xBase-T		10/100 Base-T / <b>Ports		1x1 / <b>Application	Standard HPLE / <b>Tab Position	Down / <b>LED (Left-Right)	YELLOW-GREEN / <b>EMI Fingers	YES
MANUFACTURER: Würth Elektronik eiSos GmbH; CREATED-BY: Christin Zierenner; COMPANY-URL: http://www.we-online.de; CREATED-DATE: AUG 2012; DATASHEET-URL: http://katalog.we-online.de/kataloge/eisos/media/pdf/74990111215A.pdf
footprint 74990111215A
part A pins: 1 TD+, 2 TCT, 3 TD-, 4 RD+, 5 RCT, 6 RD-, 8 SH (power)
part B pins: 9 A, 10 K
part C pins: 11 A, 12 K
part D pins: Z1 Z2 P$1 (power)
part E pins: 7 NC

## WE-RJ45-LAN-HPLE-10/100-BT-POE+--7499411122A
designator RJ45?, comment <pre><big> / <b>Order Code	7499411122A / <b>Design		THT / <b>xBase-T		10/100 Base-T / <b>Ports		1x1 / <b>Application	PoE+ HPLE / <b>Tab Position	Up / <b>LED (Left-Right)	YELLOW-GREEN / <b>EMI Fingers	YES
MANUFACTURER: Würth Elektronik eiSos GmbH; CREATED-BY: Christin Zierenner; COMPANY-URL: http://www.we-online.de; CREATED-DATE: AUG 2012; DATASHEET-URL: http://katalog.we-online.de/kataloge/eisos/media/pdf/7499411122A.pdf
footprint 7499411122A
part A pins: 4, 5, 6, 10, 11, 12, 13 VC1+ (power), 14 VC1- (power), 15 VC2+ (power), 16 VC2- (power)
part B pins: 17 K, 18 A
part C pins: 19 K, 20 A
part D pins: Z1 Z2 P$1 (power)
part E pins: 1 2 3 7 8 9 NC

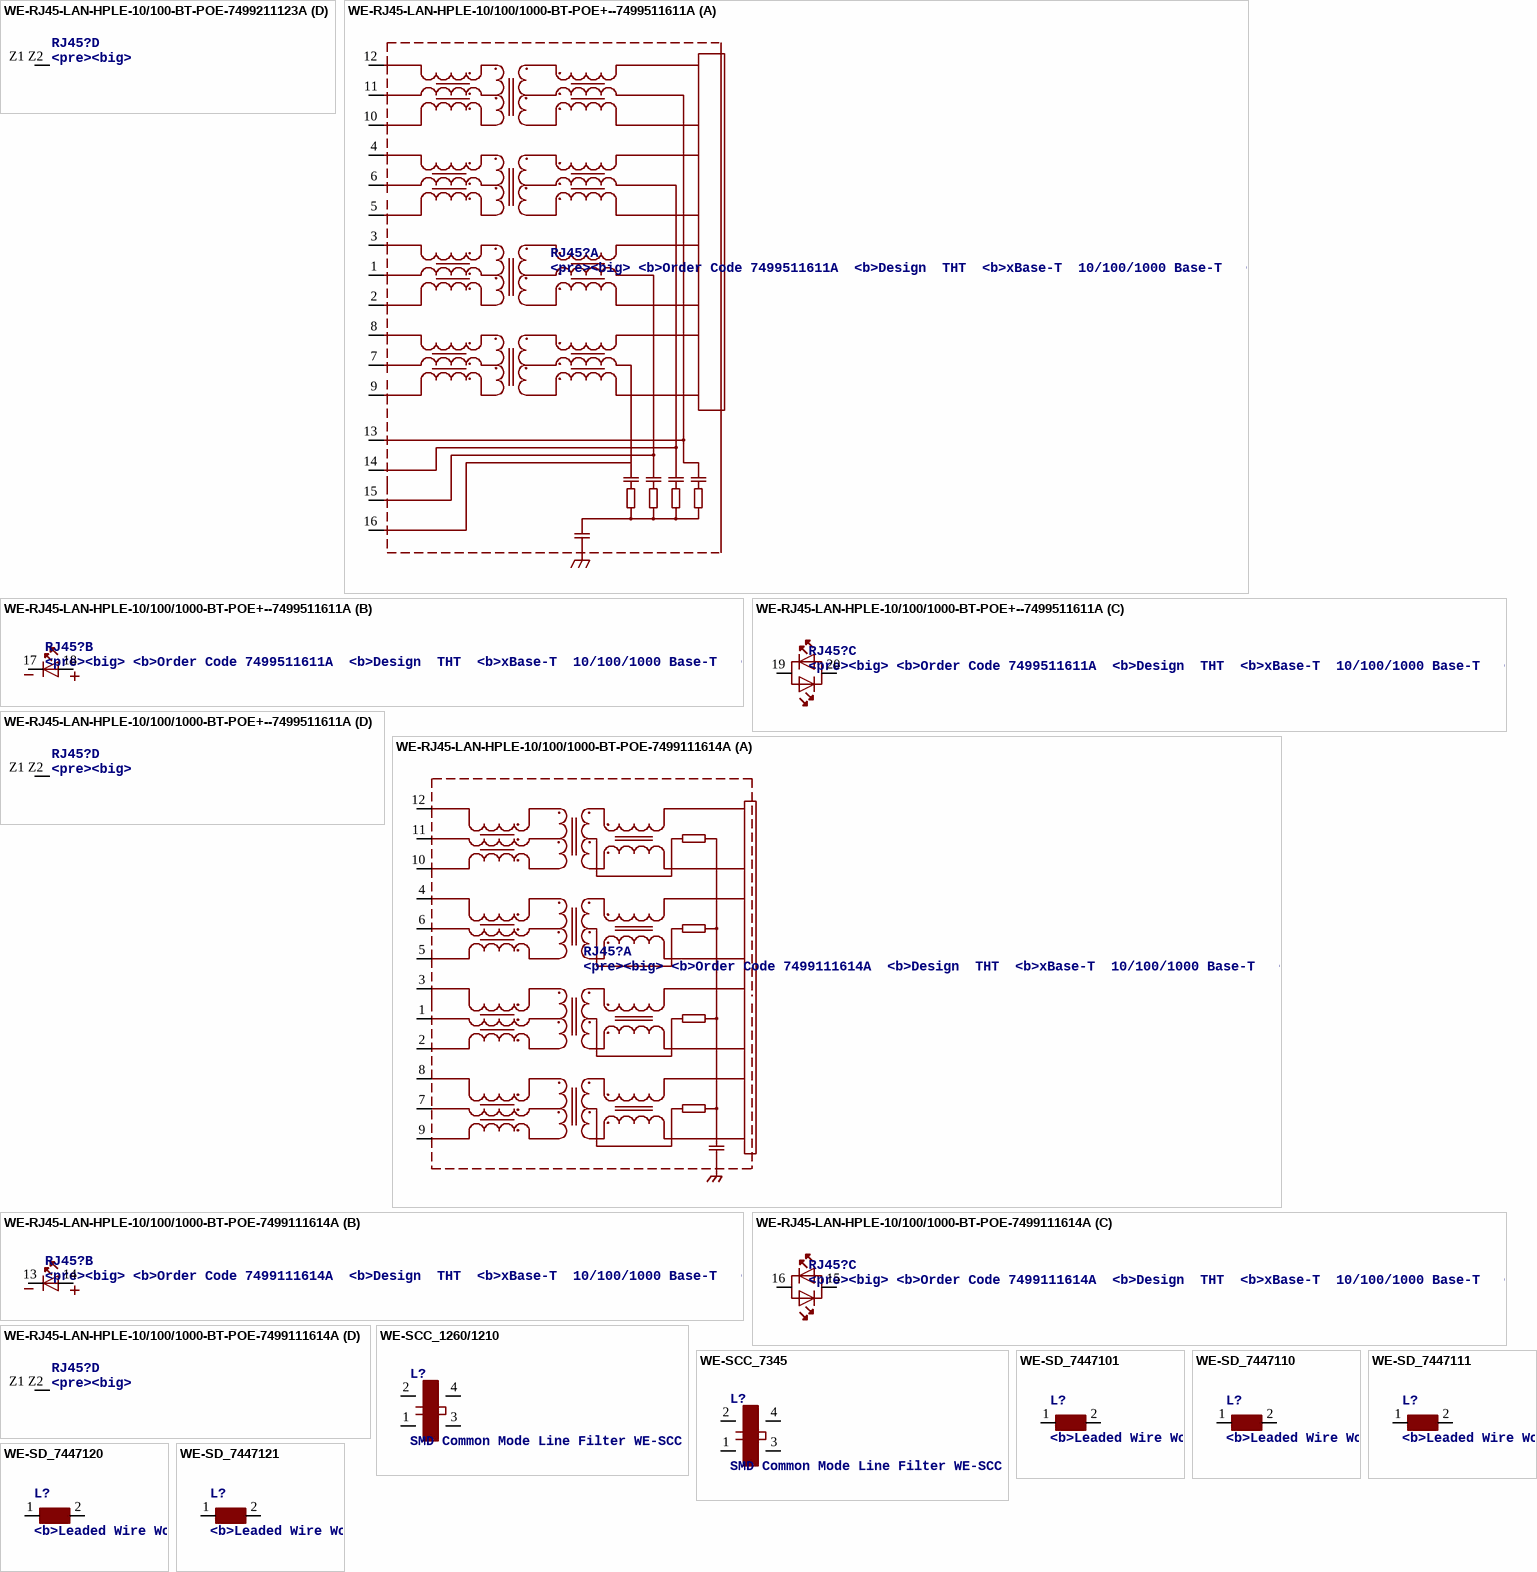
[diagram p29: symbols WE-RJ45-LAN-HPLE-10/100-BT-POE-7499211123A to WE-SD_7447121]

## WE-RJ45-LAN-HPLE-10/100-BT-POE-7499211123A
designator RJ45?, comment <pre><big> / <b>Order Code	7499211123A / <b>Design		THT / <b>xBase-T		10/100 Base-T / <b>Ports		1x1 / <b>Application	PoE HPLE / <b>Tab Position	Down / <b>LED (Left-Right)	YELLOW-GREEN / <b>EMI Fingers	YES
MANUFACTURER: Würth Elektronik eiSos GmbH; CREATED-BY: Christin Zierenner; COMPANY-URL: http://www.we-online.de; CREATED-DATE: AUG 2012; DATASHEET-URL: http://katalog.we-online.de/pbs/datasheet/7499211123A.pdf
footprint 7499211123A
part A pins: 1, 2, 3, 4, 5, 7 VC1+ (power), 8 VC1- (power), 9 VC2+ (power), 10 VC2- (power)
part B pins: 11 A, 12 K
part C pins: 13 A, 14 K
part D pins: Z1 Z2 P$1 (power)

## WE-RJ45-LAN-HPLE-10/100/1000-BT-POE+--7499511611A
designator RJ45?, comment <pre><big> / <b>Order Code	7499511611A / <b>Design		THT / <b>xBase-T		10/100/1000 Base-T / <b>Ports		1x1 / <b>Application	PoE+ HPLE / <b>Tab Position	Up / <b>LED (Left-Right)	GREEN/ORANGE-YELLOW / <b>EMI Fingers	YES
MANUFACTURER: Würth Elektronik eiSos GmbH; CREATED-BY: Christin Zierenner; COMPANY-URL: http://www.we-online.de; CREATED-DATE: AUG 2012; DATASHEET-URL: http://katalog.we-online.de/kataloge/eisos/media/pdf/7499511611A.pdf
footprint 7499511611A
part A pins: 1, 2, 3, 4, 5, 6, 7, 8, 9, 10, 11, 12, 13 VC1+ (power), 14 VC1- (power), 15 VC2+ (power), 16 VC2- (power)
part B pins: 17 K, 18 A
part C pins: 19 AK1, 20 AK2
part D pins: Z1 Z2 P$1 (power)

## WE-RJ45-LAN-HPLE-10/100/1000-BT-POE-7499111614A
designator RJ45?, comment <pre><big> / <b>Order Code	7499111614A / <b>Design		THT / <b>xBase-T		10/100/1000 Base-T / <b>Ports		1x1 / <b>Application	Standard HPLE / <b>Tab Position	Up / <b>LED (Left-Right)	GREEN/ORANGE-YELLOW / <b>EMI Fingers	YES
MANUFACTURER: Würth Elektronik eiSos GmbH; CREATED-BY: Christin Zierenner; COMPANY-URL: http://www.we-online.de; CREATED-DATE: AUG 2012; DATASHEET-URL: http://katalog.we-online.de/kataloge/eisos/media/pdf/7499111614A.pdf
footprint 7499111614A
part A pins: 1, 2, 3, 4, 5, 6, 7, 8, 9, 10, 11, 12
part B pins: 13 K, 14 A
part C pins: 15 AK2, 16 AK1
part D pins: Z1 Z2 P$1 (power)

## WE-SCC_1260/1210
designator L?, comment SMD Common Mode Line Filter WE-SCC
footprint WE-SCC_1260/1210
pins: 1, 2 3, 3 2, 4

## WE-SCC_7345
designator L?, comment SMD Common Mode Line Filter WE-SCC
footprint WE-SCC_7345
pins: 1, 2 3, 3 2, 4

## WE-SD_7447101
designator L?, comment <b>Leaded Wire Wound Rodcore Inductor WE-SD HIGH CURRENT</b><p> / - Rated Current up to 20 A<br> / - Inductance is independent from rated DC current<br> / - Mechanical dimensions can be adjusted on customer request<br> / - High mechanical stability<p> / -- Swirching regulators<br> / -- Motors<br> / -- Power amplifiers<br> / -- Power supplies<br> / -- Especially designed for automotive industry<br> / -- Broadband filtering
footprint WE-SD_7447101
pins: 1, 2

## WE-SD_7447110
designator L?, comment <b>Leaded Wire Wound Rodcore Inductor WE-SD HIGH CURRENT</b><p> / - Rated Current up to 20 A<br> / - Inductance is independent from rated DC current<br> / - Mechanical dimensions can be adjusted on customer request<br> / - High mechanical stability<p> / -- Swirching regulators<br> / -- Motors<br> / -- Power amplifiers<br> / -- Power supplies<br> / -- Especially designed for automotive industry<br> / -- Broadband filtering
footprint WE-SD_7447110
pins: 1, 2

## WE-SD_7447111
designator L?, comment <b>Leaded Wire Wound Rodcore Inductor WE-SD HIGH CURRENT</b><p> / - Rated Current up to 20 A<br> / - Inductance is independent from rated DC current<br> / - Mechanical dimensions can be adjusted on customer request<br> / - High mechanical stability<p> / -- Swirching regulators<br> / -- Motors<br> / -- Power amplifiers<br> / -- Power supplies<br> / -- Especially designed for automotive industry<br> / -- Broadband filtering
footprint WE-SD_7447111
pins: 1, 2

## WE-SD_7447120
designator L?, comment <b>Leaded Wire Wound Rodcore Inductor WE-SD HIGH CURRENT</b><p> / - Rated Current up to 20 A<br> / - Inductance is independent from rated DC current<br> / - Mechanical dimensions can be adjusted on customer request<br> / - High mechanical stability<p> / -- Swirching regulators<br> / -- Motors<br> / -- Power amplifiers<br> / -- Power supplies<br> / -- Especially designed for automotive industry<br> / -- Broadband filtering
footprint WE-SD_7447120
pins: 1, 2

## WE-SD_7447121
designator L?, comment <b>Leaded Wire Wound Rodcore Inductor WE-SD HIGH CURRENT</b><p> / - Rated Current up to 20 A<br> / - Inductance is independent from rated DC current<br> / - Mechanical dimensions can be adjusted on customer request<br> / - High mechanical stability<p> / -- Swirching regulators<br> / -- Motors<br> / -- Power amplifiers<br> / -- Power supplies<br> / -- Especially designed for automotive industry<br> / -- Broadband filtering
footprint WE-SD_7447121
pins: 1, 2

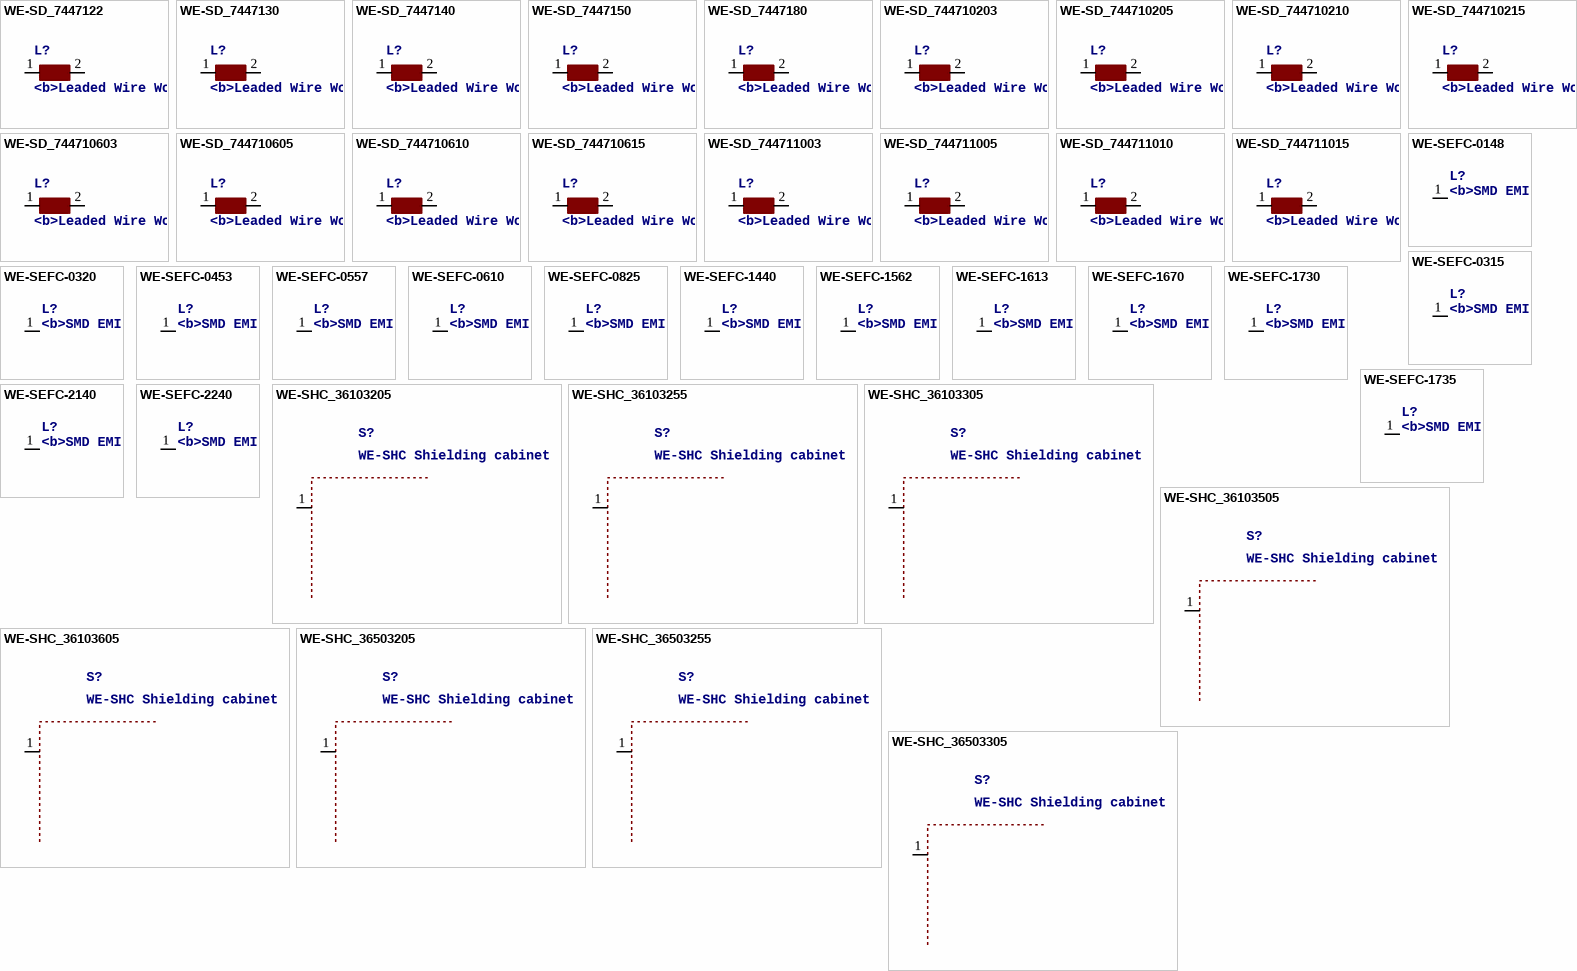
[diagram p30: symbols WE-SD_7447122 to WE-SHC_36503305]

## WE-SD_7447122
designator L?, comment <b>Leaded Wire Wound Rodcore Inductor WE-SD HIGH CURRENT</b><p> / - Rated Current up to 20 A<br> / - Inductance is independent from rated DC current<br> / - Mechanical dimensions can be adjusted on customer request<br> / - High mechanical stability<p> / -- Swirching regulators<br> / -- Motors<br> / -- Power amplifiers<br> / -- Power supplies<br> / -- Especially designed for automotive industry<br> / -- Broadband filtering
footprint WE-SD_7447122
pins: 1, 2

## WE-SD_7447130
designator L?, comment <b>Leaded Wire Wound Rodcore Inductor WE-SD HIGH CURRENT</b><p> / - Rated Current up to 20 A<br> / - Inductance is independent from rated DC current<br> / - Mechanical dimensions can be adjusted on customer request<br> / - High mechanical stability<p> / -- Swirching regulators<br> / -- Motors<br> / -- Power amplifiers<br> / -- Power supplies<br> / -- Especially designed for automotive industry<br> / -- Broadband filtering
footprint WE-SD_7447130
pins: 1, 2

## WE-SD_7447140
designator L?, comment <b>Leaded Wire Wound Rodcore Inductor WE-SD HIGH CURRENT</b><p> / - Rated Current up to 20 A<br> / - Inductance is independent from rated DC current<br> / - Mechanical dimensions can be adjusted on customer request<br> / - High mechanical stability<p> / -- Swirching regulators<br> / -- Motors<br> / -- Power amplifiers<br> / -- Power supplies<br> / -- Especially designed for automotive industry<br> / -- Broadband filtering
footprint WE-SD_7447140
pins: 1, 2

## WE-SD_7447150
designator L?, comment <b>Leaded Wire Wound Rodcore Inductor WE-SD HIGH CURRENT</b><p> / - Rated Current up to 20 A<br> / - Inductance is independent from rated DC current<br> / - Mechanical dimensions can be adjusted on customer request<br> / - High mechanical stability<p> / -- Swirching regulators<br> / -- Motors<br> / -- Power amplifiers<br> / -- Power supplies<br> / -- Especially designed for automotive industry<br> / -- Broadband filtering
footprint WE-SD_7447150
pins: 1, 2

## WE-SD_7447180
designator L?, comment <b>Leaded Wire Wound Rodcore Inductor WE-SD HIGH CURRENT</b><p> / - Rated Current up to 20 A<br> / - Inductance is independent from rated DC current<br> / - Mechanical dimensions can be adjusted on customer request<br> / - High mechanical stability<p> / -- Swirching regulators<br> / -- Motors<br> / -- Power amplifiers<br> / -- Power supplies<br> / -- Especially designed for automotive industry<br> / -- Broadband filtering
footprint WE-SD_7447180
pins: 1, 2

## WE-SD_744710203
designator L?, comment <b>Leaded Wire Wound Rodcore Inductor WE-SD HIGH CURRENT</b><p> / - Rated Current up to 20 A<br> / - Inductance is independent from rated DC current<br> / - Mechanical dimensions can be adjusted on customer request<br> / - High mechanical stability<p> / -- Swirching regulators<br> / -- Motors<br> / -- Power amplifiers<br> / -- Power supplies<br> / -- Especially designed for automotive industry<br> / -- Broadband filtering
footprint WE-SD_744710203
pins: 1, 2

## WE-SD_744710205
designator L?, comment <b>Leaded Wire Wound Rodcore Inductor WE-SD HIGH CURRENT</b><p> / - Rated Current up to 20 A<br> / - Inductance is independent from rated DC current<br> / - Mechanical dimensions can be adjusted on customer request<br> / - High mechanical stability<p> / -- Swirching regulators<br> / -- Motors<br> / -- Power amplifiers<br> / -- Power supplies<br> / -- Especially designed for automotive industry<br> / -- Broadband filtering
footprint WE-SD_744710205
pins: 1, 2

## WE-SD_744710210
designator L?, comment <b>Leaded Wire Wound Rodcore Inductor WE-SD HIGH CURRENT</b><p> / - Rated Current up to 20 A<br> / - Inductance is independent from rated DC current<br> / - Mechanical dimensions can be adjusted on customer request<br> / - High mechanical stability<p> / -- Swirching regulators<br> / -- Motors<br> / -- Power amplifiers<br> / -- Power supplies<br> / -- Especially designed for automotive industry<br> / -- Broadband filtering
footprint WE-SD_744710210
pins: 1, 2

## WE-SD_744710215
designator L?, comment <b>Leaded Wire Wound Rodcore Inductor WE-SD HIGH CURRENT</b><p> / - Rated Current up to 20 A<br> / - Inductance is independent from rated DC current<br> / - Mechanical dimensions can be adjusted on customer request<br> / - High mechanical stability<p> / -- Swirching regulators<br> / -- Motors<br> / -- Power amplifiers<br> / -- Power supplies<br> / -- Especially designed for automotive industry<br> / -- Broadband filtering
footprint WE-SD_744710215
pins: 1, 2

## WE-SD_744710603
designator L?, comment <b>Leaded Wire Wound Rodcore Inductor WE-SD HIGH CURRENT</b><p> / - Rated Current up to 20 A<br> / - Inductance is independent from rated DC current<br> / - Mechanical dimensions can be adjusted on customer request<br> / - High mechanical stability<p> / -- Swirching regulators<br> / -- Motors<br> / -- Power amplifiers<br> / -- Power supplies<br> / -- Especially designed for automotive industry<br> / -- Broadband filtering
footprint WE-SD_744710603
pins: 1, 2

## WE-SD_744710605
designator L?, comment <b>Leaded Wire Wound Rodcore Inductor WE-SD HIGH CURRENT</b><p> / - Rated Current up to 20 A<br> / - Inductance is independent from rated DC current<br> / - Mechanical dimensions can be adjusted on customer request<br> / - High mechanical stability<p> / -- Swirching regulators<br> / -- Motors<br> / -- Power amplifiers<br> / -- Power supplies<br> / -- Especially designed for automotive industry<br> / -- Broadband filtering
footprint WE-SD_744710605
pins: 1, 2

## WE-SD_744710610
designator L?, comment <b>Leaded Wire Wound Rodcore Inductor WE-SD HIGH CURRENT</b><p> / - Rated Current up to 20 A<br> / - Inductance is independent from rated DC current<br> / - Mechanical dimensions can be adjusted on customer request<br> / - High mechanical stability<p> / -- Swirching regulators<br> / -- Motors<br> / -- Power amplifiers<br> / -- Power supplies<br> / -- Especially designed for automotive industry<br> / -- Broadband filtering
footprint WE-SD_744710610
pins: 1, 2

## WE-SD_744710615
designator L?, comment <b>Leaded Wire Wound Rodcore Inductor WE-SD HIGH CURRENT</b><p> / - Rated Current up to 20 A<br> / - Inductance is independent from rated DC current<br> / - Mechanical dimensions can be adjusted on customer request<br> / - High mechanical stability<p> / -- Swirching regulators<br> / -- Motors<br> / -- Power amplifiers<br> / -- Power supplies<br> / -- Especially designed for automotive industry<br> / -- Broadband filtering
footprint WE-SD_744710615
pins: 1, 2

## WE-SD_744711003
designator L?, comment <b>Leaded Wire Wound Rodcore Inductor WE-SD HIGH CURRENT</b><p> / - Rated Current up to 20 A<br> / - Inductance is independent from rated DC current<br> / - Mechanical dimensions can be adjusted on customer request<br> / - High mechanical stability<p> / -- Swirching regulators<br> / -- Motors<br> / -- Power amplifiers<br> / -- Power supplies<br> / -- Especially designed for automotive industry<br> / -- Broadband filtering
footprint WE-SD_744711003
pins: 1, 2

## WE-SD_744711005
designator L?, comment <b>Leaded Wire Wound Rodcore Inductor WE-SD HIGH CURRENT</b><p> / - Rated Current up to 20 A<br> / - Inductance is independent from rated DC current<br> / - Mechanical dimensions can be adjusted on customer request<br> / - High mechanical stability<p> / -- Swirching regulators<br> / -- Motors<br> / -- Power amplifiers<br> / -- Power supplies<br> / -- Especially designed for automotive industry<br> / -- Broadband filtering
footprint WE-SD_744711005
pins: 1, 2

## WE-SD_744711010
designator L?, comment <b>Leaded Wire Wound Rodcore Inductor WE-SD HIGH CURRENT</b><p> / - Rated Current up to 20 A<br> / - Inductance is independent from rated DC current<br> / - Mechanical dimensions can be adjusted on customer request<br> / - High mechanical stability<p> / -- Swirching regulators<br> / -- Motors<br> / -- Power amplifiers<br> / -- Power supplies<br> / -- Especially designed for automotive industry<br> / -- Broadband filtering
footprint WE-SD_744711010
pins: 1, 2

## WE-SD_744711015
designator L?, comment <b>Leaded Wire Wound Rodcore Inductor WE-SD HIGH CURRENT</b><p> / - Rated Current up to 20 A<br> / - Inductance is independent from rated DC current<br> / - Mechanical dimensions can be adjusted on customer request<br> / - High mechanical stability<p> / -- Swirching regulators<br> / -- Motors<br> / -- Power amplifiers<br> / -- Power supplies<br> / -- Especially designed for automotive industry<br> / -- Broadband filtering
footprint WE-SD_744711015
pins: 1, 2

## WE-SEFC-0148
designator L?, comment <b>SMD EMI Contact Finger WE-SECF</b><p> / <b>Characteristics : </b><p> / Suitable for automated placement <br> / Material: copper-beryllium (CuBe) gold-plated (AU)<br> / Different types and sizes available <br> / Corrossion-resistant<br> / Wear-resistant <br> / High temperatures and mechenical weight have no influence on the excellent connection properties <br> / Reliable solderability <br> / Customize materials and platings are possible <br> / Customized types and sizes are possible<br> / <br> / <b>APPLICATIONS :</b><p> / Contact between PCB's earth and housing  <br> / Low Ω HF connection between earthing points of two PCB's lying upon each other <br> / Earthing of cooling units on high frequency  <br> / Connection between signal and power supply of two PCB's on track  <br> / Connection between PCB's and extern elements  <br>
MANUFACTURER: Würth Elektronik eiSos GmbH; CREATED-BY: Christin Otto; COMPANY-URL: http://www.we-online.de; CREATED-DATE: MAR 2013; DATASHEET-URL: http://katalog.we-online.de/pbs/datasheet/331011452048.pdf
footprint WE-SECF_0148
pins: 1 P$1 (power)

## WE-SEFC-0315
designator L?, comment <b>SMD EMI Contact Finger WE-SECF</b><p> / <b>Characteristics : </b><p> / Suitable for automated placement <br> / Material: copper-beryllium (CuBe) gold-plated (AU)<br> / Different types and sizes available <br> / Corrossion-resistant<br> / Wear-resistant <br> / High temperatures and mechenical weight have no influence on the excellent connection properties <br> / Reliable solderability <br> / Customize materials and platings are possible <br> / Customized types and sizes are possible<br> / <br> / <b>APPLICATIONS :</b><p> / Contact between PCB's earth and housing  <br> / Low Ω HF connection between earthing points of two PCB's lying upon each other <br> / Earthing of cooling units on high frequency  <br> / Connection between signal and power supply of two PCB's on track  <br> / Connection between PCB's and extern elements  <br>
MANUFACTURER: Würth Elektronik eiSos GmbH; CREATED-BY: Christin Otto; COMPANY-URL: http://www.we-online.de; CREATED-DATE: MAR 2013; DATASHEET-URL: http://katalog.we-online.de/pbs/datasheet/331031321515.pdf
footprint WE-SECF_0315
pins: 1 P$1 (power)

## WE-SEFC-0320
designator L?, comment <b>SMD EMI Contact Finger WE-SECF</b><p> / <b>Characteristics : </b><p> / Suitable for automated placement <br> / Material: copper-beryllium (CuBe) gold-plated (AU)<br> / Different types and sizes available <br> / Corrossion-resistant<br> / Wear-resistant <br> / High temperatures and mechenical weight have no influence on the excellent connection properties <br> / Reliable solderability <br> / Customize materials and platings are possible <br> / Customized types and sizes are possible<br> / <br> / <b>APPLICATIONS :</b><p> / Contact between PCB's earth and housing  <br> / Low Ω HF connection between earthing points of two PCB's lying upon each other <br> / Earthing of cooling units on high frequency  <br> / Connection between signal and power supply of two PCB's on track  <br> / Connection between PCB's and extern elements  <br>
MANUFACTURER: Würth Elektronik eiSos GmbH; CREATED-BY: Christin Otto; COMPANY-URL: http://www.we-online.de; CREATED-DATE: MAR 2013; DATASHEET-URL: http://katalog.we-online.de/pbs/datasheet/331031271520.pdf
footprint WE-SECF_0320
pins: 1 P$1 (power)

## WE-SEFC-0453
designator L?, comment <b>SMD EMI Contact Finger WE-SECF</b><p> / <b>Characteristics : </b><p> / Suitable for automated placement <br> / Material: copper-beryllium (CuBe) gold-plated (AU)<br> / Different types and sizes available <br> / Corrossion-resistant<br> / Wear-resistant <br> / High temperatures and mechenical weight have no influence on the excellent connection properties <br> / Reliable solderability <br> / Customize materials and platings are possible <br> / Customized types and sizes are possible<br> / <br> / <b>APPLICATIONS :</b><p> / Contact between PCB's earth and housing  <br> / Low Ω HF connection between earthing points of two PCB's lying upon each other <br> / Earthing of cooling units on high frequency  <br> / Connection between signal and power supply of two PCB's on track  <br> / Connection between PCB's and extern elements  <br>
MANUFACTURER: Würth Elektronik eiSos GmbH; CREATED-BY: Christin Otto; COMPANY-URL: http://www.we-online.de; CREATED-DATE: MAR 2013; DATASHEET-URL: http://katalog.we-online.de/pbs/datasheet/331041402053.pdf
footprint WE-SECF_0453
pins: 1 P$1 (power)

## WE-SEFC-0557
designator L?, comment <b>SMD EMI Contact Finger WE-SECF</b><p> / <b>Characteristics : </b><p> / Suitable for automated placement <br> / Material: copper-beryllium (CuBe) gold-plated (AU)<br> / Different types and sizes available <br> / Corrossion-resistant<br> / Wear-resistant <br> / High temperatures and mechenical weight have no influence on the excellent connection properties <br> / Reliable solderability <br> / Customize materials and platings are possible <br> / Customized types and sizes are possible<br> / <br> / <b>APPLICATIONS :</b><p> / Contact between PCB's earth and housing  <br> / Low Ω HF connection between earthing points of two PCB's lying upon each other <br> / Earthing of cooling units on high frequency  <br> / Connection between signal and power supply of two PCB's on track  <br> / Connection between PCB's and extern elements  <br>
MANUFACTURER: Würth Elektronik eiSos GmbH; CREATED-BY: Christin Otto; COMPANY-URL: http://www.we-online.de; CREATED-DATE: MAR 2013; DATASHEET-URL: http://katalog.we-online.de/pbs/datasheet/331051472057.pdf
footprint WE-SECF-0557
pins: 1 P$1 (power)

## WE-SEFC-0610
designator L?, comment <b>SMD EMI Contact Finger WE-SECF</b><p> / <b>Characteristics : </b><p> / Suitable for automated placement <br> / Material: copper-beryllium (CuBe) gold-plated (AU)<br> / Different types and sizes available <br> / Corrossion-resistant<br> / Wear-resistant <br> / High temperatures and mechenical weight have no influence on the excellent connection properties <br> / Reliable solderability <br> / Customize materials and platings are possible <br> / Customized types and sizes are possible<br> / <br> / <b>APPLICATIONS :</b><p> / Contact between PCB's earth and housing  <br> / Low Ω HF connection between earthing points of two PCB's lying upon each other <br> / Earthing of cooling units on high frequency  <br> / Connection between signal and power supply of two PCB's on track  <br> / Connection between PCB's and extern elements  <br>
MANUFACTURER: Würth Elektronik eiSos GmbH; CREATED-BY: Christin Otto; COMPANY-URL: http://www.we-online.de; CREATED-DATE: MAR 2013; DATASHEET-URL: http://katalog.we-online.de/pbs/datasheet/331061603010.pdf
footprint WE-SECF_0610
pins: 1 P$1 (power)

## WE-SEFC-0825
designator L?, comment <b>SMD EMI Contact Finger WE-SECF</b><p> / <b>Characteristics : </b><p> / Suitable for automated placement <br> / Material: copper-beryllium (CuBe) gold-plated (AU)<br> / Different types and sizes available <br> / Corrossion-resistant<br> / Wear-resistant <br> / High temperatures and mechenical weight have no influence on the excellent connection properties <br> / Reliable solderability <br> / Customize materials and platings are possible <br> / Customized types and sizes are possible<br> / <br> / <b>APPLICATIONS :</b><p> / Contact between PCB's earth and housing  <br> / Low Ω HF connection between earthing points of two PCB's lying upon each other <br> / Earthing of cooling units on high frequency  <br> / Connection between signal and power supply of two PCB's on track  <br> / Connection between PCB's and extern elements  <br>
MANUFACTURER: Würth Elektronik eiSos GmbH; CREATED-BY: Christin Otto; COMPANY-URL: http://www.we-online.de; CREATED-DATE: MAR 2013; DATASHEET-URL: http://katalog.we-online.de/pbs/datasheet/331081302025.pdf
footprint WE-SECF_0825
pins: 1 P$1 (power)

## WE-SEFC-1440
designator L?, comment <b>SMD EMI Contact Finger WE-SECF</b><p> / <b>Characteristics : </b><p> / Suitable for automated placement <br> / Material: copper-beryllium (CuBe) gold-plated (AU)<br> / Different types and sizes available <br> / Corrossion-resistant<br> / Wear-resistant <br> / High temperatures and mechenical weight have no influence on the excellent connection properties <br> / Reliable solderability <br> / Customize materials and platings are possible <br> / Customized types and sizes are possible<br> / <br> / <b>APPLICATIONS :</b><p> / Contact between PCB's earth and housing  <br> / Low Ω HF connection between earthing points of two PCB's lying upon each other <br> / Earthing of cooling units on high frequency  <br> / Connection between signal and power supply of two PCB's on track  <br> / Connection between PCB's and extern elements  <br>
MANUFACTURER: Würth Elektronik eiSos GmbH; CREATED-BY: Christin Otto; COMPANY-URL: http://www.we-online.de; CREATED-DATE: MAR 2013; DATASHEET-URL: http://katalog.we-online.de/pbs/datasheet/331141352540.pdf
footprint WE-SECF_1440
pins: 1 P$1 (power)

## WE-SEFC-1562
designator L?, comment <b>SMD EMI Contact Finger WE-SECF</b><p> / <b>Characteristics : </b><p> / Suitable for automated placement <br> / Material: copper-beryllium (CuBe) gold-plated (AU)<br> / Different types and sizes available <br> / Corrossion-resistant<br> / Wear-resistant <br> / High temperatures and mechenical weight have no influence on the excellent connection properties <br> / Reliable solderability <br> / Customize materials and platings are possible <br> / Customized types and sizes are possible<br> / <br> / <b>APPLICATIONS :</b><p> / Contact between PCB's earth and housing  <br> / Low Ω HF connection between earthing points of two PCB's lying upon each other <br> / Earthing of cooling units on high frequency  <br> / Connection between signal and power supply of two PCB's on track  <br> / Connection between PCB's and extern elements  <br>
MANUFACTURER: Würth Elektronik eiSos GmbH; CREATED-BY: Christin Otto; COMPANY-URL: http://www.we-online.de; CREATED-DATE: MAR 2013; DATASHEET-URL: http://katalog.we-online.de/pbs/datasheet/331151702562.pdf
footprint WE-SECF-1562
pins: 1 P$1 (power)

## WE-SEFC-1613
designator L?, comment <b>SMD EMI Contact Finger WE-SECF</b><p> / <b>Characteristics : </b><p> / Suitable for automated placement <br> / Material: copper-beryllium (CuBe) gold-plated (AU)<br> / Different types and sizes available <br> / Corrossion-resistant<br> / Wear-resistant <br> / High temperatures and mechenical weight have no influence on the excellent connection properties <br> / Reliable solderability <br> / Customize materials and platings are possible <br> / Customized types and sizes are possible<br> / <br> / <b>APPLICATIONS :</b><p> / Contact between PCB's earth and housing  <br> / Low Ω HF connection between earthing points of two PCB's lying upon each other <br> / Earthing of cooling units on high frequency  <br> / Connection between signal and power supply of two PCB's on track  <br> / Connection between PCB's and extern elements  <br>
MANUFACTURER: Würth Elektronik eiSos GmbH; CREATED-BY: Christin Otto; COMPANY-URL: http://www.we-online.de; CREATED-DATE: MAR 2013; DATASHEET-URL: http://katalog.we-online.de/pbs/datasheet/331161702513.pdf
footprint WE-SECF_1613
pins: 1 P$1 (power)

## WE-SEFC-1670
designator L?, comment <b>SMD EMI Contact Finger WE-SECF</b><p> / <b>Characteristics : </b><p> / Suitable for automated placement <br> / Material: copper-beryllium (CuBe) gold-plated (AU)<br> / Different types and sizes available <br> / Corrossion-resistant<br> / Wear-resistant <br> / High temperatures and mechenical weight have no influence on the excellent connection properties <br> / Reliable solderability <br> / Customize materials and platings are possible <br> / Customized types and sizes are possible<br> / <br> / <b>APPLICATIONS :</b><p> / Contact between PCB's earth and housing  <br> / Low Ω HF connection between earthing points of two PCB's lying upon each other <br> / Earthing of cooling units on high frequency  <br> / Connection between signal and power supply of two PCB's on track  <br> / Connection between PCB's and extern elements  <br>
MANUFACTURER: Würth Elektronik eiSos GmbH; CREATED-BY: Christin Otto; COMPANY-URL: http://www.we-online.de; CREATED-DATE: MAR 2013; DATASHEET-URL: http://katalog.we-online.de/pbs/datasheet/331161452070.pdf
footprint WE-SECF_1670
pins: 1 P$1 (power)

## WE-SEFC-1730
designator L?, comment <b>SMD EMI Contact Finger WE-SECF</b><p> / <b>Characteristics : </b><p> / Suitable for automated placement <br> / Material: copper-beryllium (CuBe) gold-plated (AU)<br> / Different types and sizes available <br> / Corrossion-resistant<br> / Wear-resistant <br> / High temperatures and mechenical weight have no influence on the excellent connection properties <br> / Reliable solderability <br> / Customize materials and platings are possible <br> / Customized types and sizes are possible<br> / <br> / <b>APPLICATIONS :</b><p> / Contact between PCB's earth and housing  <br> / Low Ω HF connection between earthing points of two PCB's lying upon each other <br> / Earthing of cooling units on high frequency  <br> / Connection between signal and power supply of two PCB's on track  <br> / Connection between PCB's and extern elements  <br>
MANUFACTURER: Würth Elektronik eiSos GmbH; CREATED-BY: Christin Otto; COMPANY-URL: http://www.we-online.de; CREATED-DATE: MAR 2013; DATASHEET-URL: http://katalog.we-online.de/pbs/datasheet/331171302030.pdf
footprint WE-SECF_1730
pins: 1 P$1 (power)

## WE-SEFC-1735
designator L?, comment <b>SMD EMI Contact Finger WE-SECF</b><p> / <b>Characteristics : </b><p> / Suitable for automated placement <br> / Material: copper-beryllium (CuBe) gold-plated (AU)<br> / Different types and sizes available <br> / Corrossion-resistant<br> / Wear-resistant <br> / High temperatures and mechenical weight have no influence on the excellent connection properties <br> / Reliable solderability <br> / Customize materials and platings are possible <br> / Customized types and sizes are possible<br> / <br> / <b>APPLICATIONS :</b><p> / Contact between PCB's earth and housing  <br> / Low Ω HF connection between earthing points of two PCB's lying upon each other <br> / Earthing of cooling units on high frequency  <br> / Connection between signal and power supply of two PCB's on track  <br> / Connection between PCB's and extern elements  <br>
MANUFACTURER: Würth Elektronik eiSos GmbH; CREATED-BY: Christin Otto; COMPANY-URL: http://www.we-online.de; CREATED-DATE: MAR 2013; DATASHEET-URL: http://katalog.we-online.de/pbs/datasheet/331171302035.pdf
footprint WE-SECF_1735
pins: 1 P$1 (power)

## WE-SEFC-2140
designator L?, comment <b>SMD EMI Contact Finger WE-SECF</b><p> / <b>Characteristics : </b><p> / Suitable for automated placement <br> / Material: copper-beryllium (CuBe) gold-plated (AU)<br> / Different types and sizes available <br> / Corrossion-resistant<br> / Wear-resistant <br> / High temperatures and mechenical weight have no influence on the excellent connection properties <br> / Reliable solderability <br> / Customize materials and platings are possible <br> / Customized types and sizes are possible<br> / <br> / <b>APPLICATIONS :</b><p> / Contact between PCB's earth and housing  <br> / Low Ω HF connection between earthing points of two PCB's lying upon each other <br> / Earthing of cooling units on high frequency  <br> / Connection between signal and power supply of two PCB's on track  <br> / Connection between PCB's and extern elements  <br>
MANUFACTURER: Würth Elektronik eiSos GmbH; CREATED-BY: Christin Otto; COMPANY-URL: http://www.we-online.de; CREATED-DATE: MAR 2013; DATASHEET-URL: http://katalog.we-online.de/pbs/datasheet/331211503040.pdf
footprint WE-SECF_2140
pins: 1 P$1 (power)

## WE-SEFC-2240
designator L?, comment <b>SMD EMI Contact Finger WE-SECF</b><p> / <b>Characteristics : </b><p> / Suitable for automated placement <br> / Material: copper-beryllium (CuBe) gold-plated (AU)<br> / Different types and sizes available <br> / Corrossion-resistant<br> / Wear-resistant <br> / High temperatures and mechenical weight have no influence on the excellent connection properties <br> / Reliable solderability <br> / Customize materials and platings are possible <br> / Customized types and sizes are possible<br> / <br> / <b>APPLICATIONS :</b><p> / Contact between PCB's earth and housing  <br> / Low Ω HF connection between earthing points of two PCB's lying upon each other <br> / Earthing of cooling units on high frequency  <br> / Connection between signal and power supply of two PCB's on track  <br> / Connection between PCB's and extern elements  <br>
MANUFACTURER: Würth Elektronik eiSos GmbH; CREATED-BY: Christin Otto; COMPANY-URL: http://www.we-online.de; CREATED-DATE: MAR 2013; DATASHEET-URL: http://katalog.we-online.de/pbs/datasheet/331221602040.pdf
footprint WE-SECF_2240
pins: 1 P$1 (power)

## WE-SHC_36103205
designator S?, comment WE-SHC Shielding cabinet
footprint WE-SHC_36103205
pins: 1 GND (power)

## WE-SHC_36103255
designator S?, comment WE-SHC Shielding cabinet
footprint WE-SHC_36103255
pins: 1 GND (power)

## WE-SHC_36103305
designator S?, comment WE-SHC Shielding cabinet
footprint WE-SHC_36103305
pins: 1 GND (power)

## WE-SHC_36103505
designator S?, comment WE-SHC Shielding cabinet
footprint WE-SHC_36103505
pins: 1 GND (power)

## WE-SHC_36103605
designator S?, comment WE-SHC Shielding cabinet
footprint WE-SHC_36103605
pins: 1 GND (power)